# Altium schematic symbol library MCU_ST_STM32F2.SchLib: 62 symbols (part 1 of 3)
Pins are listed as number, name and electrical type; pins without a type are passive.

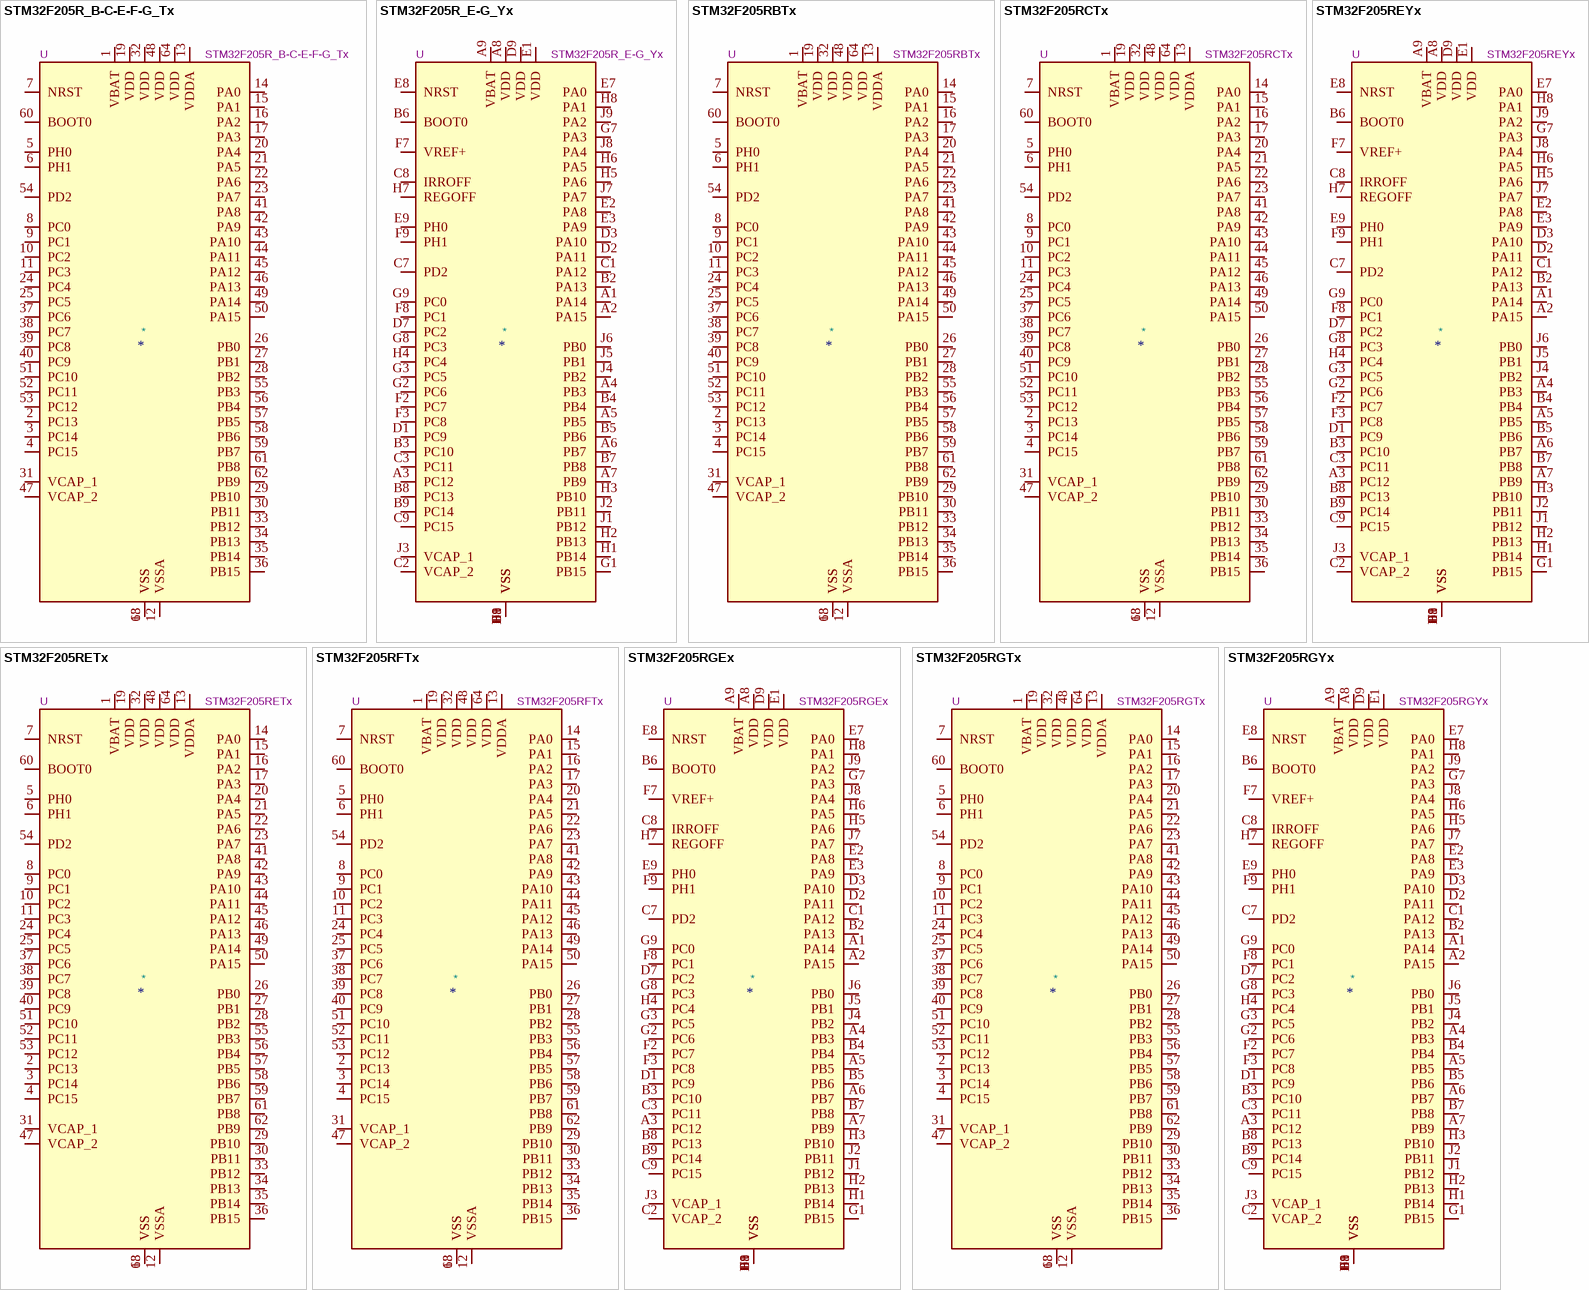
[diagram p0: symbols STM32F205R_B-C-E-F-G_Tx to STM32F205RGYx]

## STM32F205R_B-C-E-F-G_Tx
designator *  value STM32F205R_B-C-E-F-G_Tx  Reference: U
STMicroelectronics Arm Cortex-M3 MCU, 128-1024KB flash, 64-128KB RAM, 120 MHz, 1.8-3.6V, 51 GPIO, LQFP64; ki_keywords: Arm Cortex-M3 STM32F2 STM32F2x5; ki_fp_filters: LQFP*10x10mm*P0.5mm*; Footprint: Package_QFP:LQFP-64_10x10mm_P0.5mm; Datasheet: https://www.st.com/resource/en/datasheet/stm32f205rb.pdf; Description_: STMicroelectronics Arm Cortex-M3 MCU, 128-1024KB flash, 64-128KB RAM, 120 MHz, 1.8-3.6V, 51 GPIO, LQFP64
pins: 1 VBAT, 2 PC13, 3 PC14, 4 PC15, 5 PH0, 6 PH1, 7 NRST, 8 PC0, 9 PC1, 10 PC2, 11 PC3, 12 VSSA, 13 VDDA, 14 PA0, 15 PA1, 16 PA2, 17 PA3, 18 VSS, 19 VDD, 20 PA4, 21 PA5, 22 PA6, 23 PA7, 24 PC4, 25 PC5, 26 PB0, 27 PB1, 28 PB2, 29 PB10, 30 PB11, 31 VCAP_1, 32 VDD, 33 PB12, 34 PB13, 35 PB14, 36 PB15, 37 PC6, 38 PC7, 39 PC8, 40 PC9, 41 PA8, 42 PA9, 43 PA10, 44 PA11, 45 PA12, 46 PA13, 47 VCAP_2, 48 VDD, 49 PA14, 50 PA15, 51 PC10, 52 PC11, 53 PC12, 54 PD2, 55 PB3, 56 PB4, 57 PB5, 58 PB6, 59 PB7, 60 BOOT0, 61 PB8, 62 PB9, 63 VSS, 64 VDD

## STM32F205R_E-G_Yx
designator *  value STM32F205R_E-G_Yx  Reference: U
STMicroelectronics Arm Cortex-M3 MCU, 512-1024KB flash, 128KB RAM, 120 MHz, 1.8-3.6V, 51 GPIO, WLCSP66; ki_keywords: Arm Cortex-M3 STM32F2 STM32F2x5; ki_fp_filters: ST*WLCSP*Die411*; Footprint: Package_CSP:ST_WLCSP-66_Die411; Datasheet: https://www.st.com/resource/en/datasheet/stm32f205re.pdf; Description_: STMicroelectronics Arm Cortex-M3 MCU, 512-1024KB flash, 128KB RAM, 120 MHz, 1.8-3.6V, 51 GPIO, WLCSP66
pins: A1 PA14, A2 PA15, A3 PC12, A4 PB3, A5 PB5, A6 PB7, A7 PB9, A8 VDD, A9 VBAT, B1 VSS, B2 PA13, B3 PC10, B4 PB4, B5 PB6, B6 BOOT0, B7 PB8, B8 PC13, B9 PC14, C1 PA12, C2 VCAP_2, C3 PC11, C7 PD2, C8 IRROFF, C9 PC15, D1 PC9, D2 PA11, D3 PA10, D7 PC2, D8 VSS, D9 VDD, E1 VDD, E2 PA8, E3 PA9, E7 PA0, E8 NRST, E9 PH0, F1 VSS, F2 PC7, F3 PC8, F7 VREF+, F8 PC1, F9 PH1, G1 PB15, G2 PC6, G3 PC5, G7 PA3, G8 PC3, G9 PC0, H1 PB14, H2 PB13, H3 PB10, H4 PC4, H5 PA6, H6 PA5, H7 REGOFF, H8 PA1, H9 VSS, J1 PB12, J2 PB11, J3 VCAP_1, J4 PB2, J5 PB1, J6 PB0, J7 PA7, J8 PA4, J9 PA2

## STM32F205RBTx
designator *  value STM32F205RBTx  Reference: U
STMicroelectronics Arm Cortex-M3 MCU, 128KB flash, 64KB RAM, 120 MHz, 1.8-3.6V, 51 GPIO, LQFP64; ki_keywords: Arm Cortex-M3 STM32F2 STM32F2x5; ki_fp_filters: LQFP*10x10mm*P0.5mm*; Footprint: Package_QFP:LQFP-64_10x10mm_P0.5mm; Datasheet: https://www.st.com/resource/en/datasheet/stm32f205rb.pdf; Description_: STMicroelectronics Arm Cortex-M3 MCU, 128KB flash, 64KB RAM, 120 MHz, 1.8-3.6V, 51 GPIO, LQFP64
pins: 1 VBAT, 2 PC13, 3 PC14, 4 PC15, 5 PH0, 6 PH1, 7 NRST, 8 PC0, 9 PC1, 10 PC2, 11 PC3, 12 VSSA, 13 VDDA, 14 PA0, 15 PA1, 16 PA2, 17 PA3, 18 VSS, 19 VDD, 20 PA4, 21 PA5, 22 PA6, 23 PA7, 24 PC4, 25 PC5, 26 PB0, 27 PB1, 28 PB2, 29 PB10, 30 PB11, 31 VCAP_1, 32 VDD, 33 PB12, 34 PB13, 35 PB14, 36 PB15, 37 PC6, 38 PC7, 39 PC8, 40 PC9, 41 PA8, 42 PA9, 43 PA10, 44 PA11, 45 PA12, 46 PA13, 47 VCAP_2, 48 VDD, 49 PA14, 50 PA15, 51 PC10, 52 PC11, 53 PC12, 54 PD2, 55 PB3, 56 PB4, 57 PB5, 58 PB6, 59 PB7, 60 BOOT0, 61 PB8, 62 PB9, 63 VSS, 64 VDD

## STM32F205RCTx
designator *  value STM32F205RCTx  Reference: U
STMicroelectronics Arm Cortex-M3 MCU, 256KB flash, 96KB RAM, 120 MHz, 1.8-3.6V, 51 GPIO, LQFP64; ki_keywords: Arm Cortex-M3 STM32F2 STM32F2x5; ki_fp_filters: LQFP*10x10mm*P0.5mm*; Footprint: Package_QFP:LQFP-64_10x10mm_P0.5mm; Datasheet: https://www.st.com/resource/en/datasheet/stm32f205rc.pdf; Description_: STMicroelectronics Arm Cortex-M3 MCU, 256KB flash, 96KB RAM, 120 MHz, 1.8-3.6V, 51 GPIO, LQFP64
pins: 1 VBAT, 2 PC13, 3 PC14, 4 PC15, 5 PH0, 6 PH1, 7 NRST, 8 PC0, 9 PC1, 10 PC2, 11 PC3, 12 VSSA, 13 VDDA, 14 PA0, 15 PA1, 16 PA2, 17 PA3, 18 VSS, 19 VDD, 20 PA4, 21 PA5, 22 PA6, 23 PA7, 24 PC4, 25 PC5, 26 PB0, 27 PB1, 28 PB2, 29 PB10, 30 PB11, 31 VCAP_1, 32 VDD, 33 PB12, 34 PB13, 35 PB14, 36 PB15, 37 PC6, 38 PC7, 39 PC8, 40 PC9, 41 PA8, 42 PA9, 43 PA10, 44 PA11, 45 PA12, 46 PA13, 47 VCAP_2, 48 VDD, 49 PA14, 50 PA15, 51 PC10, 52 PC11, 53 PC12, 54 PD2, 55 PB3, 56 PB4, 57 PB5, 58 PB6, 59 PB7, 60 BOOT0, 61 PB8, 62 PB9, 63 VSS, 64 VDD

## STM32F205RETx
designator *  value STM32F205RETx  Reference: U
STMicroelectronics Arm Cortex-M3 MCU, 512KB flash, 128KB RAM, 120 MHz, 1.8-3.6V, 51 GPIO, LQFP64; ki_keywords: Arm Cortex-M3 STM32F2 STM32F2x5; ki_fp_filters: LQFP*10x10mm*P0.5mm*; Footprint: Package_QFP:LQFP-64_10x10mm_P0.5mm; Datasheet: https://www.st.com/resource/en/datasheet/stm32f205re.pdf; Description_: STMicroelectronics Arm Cortex-M3 MCU, 512KB flash, 128KB RAM, 120 MHz, 1.8-3.6V, 51 GPIO, LQFP64
pins: 1 VBAT, 2 PC13, 3 PC14, 4 PC15, 5 PH0, 6 PH1, 7 NRST, 8 PC0, 9 PC1, 10 PC2, 11 PC3, 12 VSSA, 13 VDDA, 14 PA0, 15 PA1, 16 PA2, 17 PA3, 18 VSS, 19 VDD, 20 PA4, 21 PA5, 22 PA6, 23 PA7, 24 PC4, 25 PC5, 26 PB0, 27 PB1, 28 PB2, 29 PB10, 30 PB11, 31 VCAP_1, 32 VDD, 33 PB12, 34 PB13, 35 PB14, 36 PB15, 37 PC6, 38 PC7, 39 PC8, 40 PC9, 41 PA8, 42 PA9, 43 PA10, 44 PA11, 45 PA12, 46 PA13, 47 VCAP_2, 48 VDD, 49 PA14, 50 PA15, 51 PC10, 52 PC11, 53 PC12, 54 PD2, 55 PB3, 56 PB4, 57 PB5, 58 PB6, 59 PB7, 60 BOOT0, 61 PB8, 62 PB9, 63 VSS, 64 VDD

## STM32F205REYx
designator *  value STM32F205REYx  Reference: U
STMicroelectronics Arm Cortex-M3 MCU, 512KB flash, 128KB RAM, 120 MHz, 1.8-3.6V, 51 GPIO, WLCSP66; ki_keywords: Arm Cortex-M3 STM32F2 STM32F2x5; ki_fp_filters: ST*WLCSP*Die411*; Footprint: Package_CSP:ST_WLCSP-66_Die411; Datasheet: https://www.st.com/resource/en/datasheet/stm32f205re.pdf; Description_: STMicroelectronics Arm Cortex-M3 MCU, 512KB flash, 128KB RAM, 120 MHz, 1.8-3.6V, 51 GPIO, WLCSP66
pins: A1 PA14, A2 PA15, A3 PC12, A4 PB3, A5 PB5, A6 PB7, A7 PB9, A8 VDD, A9 VBAT, B1 VSS, B2 PA13, B3 PC10, B4 PB4, B5 PB6, B6 BOOT0, B7 PB8, B8 PC13, B9 PC14, C1 PA12, C2 VCAP_2, C3 PC11, C7 PD2, C8 IRROFF, C9 PC15, D1 PC9, D2 PA11, D3 PA10, D7 PC2, D8 VSS, D9 VDD, E1 VDD, E2 PA8, E3 PA9, E7 PA0, E8 NRST, E9 PH0, F1 VSS, F2 PC7, F3 PC8, F7 VREF+, F8 PC1, F9 PH1, G1 PB15, G2 PC6, G3 PC5, G7 PA3, G8 PC3, G9 PC0, H1 PB14, H2 PB13, H3 PB10, H4 PC4, H5 PA6, H6 PA5, H7 REGOFF, H8 PA1, H9 VSS, J1 PB12, J2 PB11, J3 VCAP_1, J4 PB2, J5 PB1, J6 PB0, J7 PA7, J8 PA4, J9 PA2

## STM32F205RFTx
designator *  value STM32F205RFTx  Reference: U
STMicroelectronics Arm Cortex-M3 MCU, 768KB flash, 128KB RAM, 120 MHz, 1.8-3.6V, 51 GPIO, LQFP64; ki_keywords: Arm Cortex-M3 STM32F2 STM32F2x5; ki_fp_filters: LQFP*10x10mm*P0.5mm*; Footprint: Package_QFP:LQFP-64_10x10mm_P0.5mm; Datasheet: https://www.st.com/resource/en/datasheet/stm32f205rf.pdf; Description_: STMicroelectronics Arm Cortex-M3 MCU, 768KB flash, 128KB RAM, 120 MHz, 1.8-3.6V, 51 GPIO, LQFP64
pins: 1 VBAT, 2 PC13, 3 PC14, 4 PC15, 5 PH0, 6 PH1, 7 NRST, 8 PC0, 9 PC1, 10 PC2, 11 PC3, 12 VSSA, 13 VDDA, 14 PA0, 15 PA1, 16 PA2, 17 PA3, 18 VSS, 19 VDD, 20 PA4, 21 PA5, 22 PA6, 23 PA7, 24 PC4, 25 PC5, 26 PB0, 27 PB1, 28 PB2, 29 PB10, 30 PB11, 31 VCAP_1, 32 VDD, 33 PB12, 34 PB13, 35 PB14, 36 PB15, 37 PC6, 38 PC7, 39 PC8, 40 PC9, 41 PA8, 42 PA9, 43 PA10, 44 PA11, 45 PA12, 46 PA13, 47 VCAP_2, 48 VDD, 49 PA14, 50 PA15, 51 PC10, 52 PC11, 53 PC12, 54 PD2, 55 PB3, 56 PB4, 57 PB5, 58 PB6, 59 PB7, 60 BOOT0, 61 PB8, 62 PB9, 63 VSS, 64 VDD

## STM32F205RGEx
designator *  value STM32F205RGEx  Reference: U
STMicroelectronics Arm Cortex-M3 MCU, 1024KB flash, 128KB RAM, 120 MHz, 1.8-3.6V, 51 GPIO, EWLCSP66; ki_keywords: Arm Cortex-M3 STM32F2 STM32F2x5; ki_fp_filters: ST*WLCSP*Die411*; Footprint: Package_CSP:ST_WLCSP-66_Die411; Datasheet: https://www.st.com/resource/en/datasheet/stm32f205rg.pdf; Description_: STMicroelectronics Arm Cortex-M3 MCU, 1024KB flash, 128KB RAM, 120 MHz, 1.8-3.6V, 51 GPIO, EWLCSP66
pins: A1 PA14, A2 PA15, A3 PC12, A4 PB3, A5 PB5, A6 PB7, A7 PB9, A8 VDD, A9 VBAT, B1 VSS, B2 PA13, B3 PC10, B4 PB4, B5 PB6, B6 BOOT0, B7 PB8, B8 PC13, B9 PC14, C1 PA12, C2 VCAP_2, C3 PC11, C7 PD2, C8 IRROFF, C9 PC15, D1 PC9, D2 PA11, D3 PA10, D7 PC2, D8 VSS, D9 VDD, E1 VDD, E2 PA8, E3 PA9, E7 PA0, E8 NRST, E9 PH0, F1 VSS, F2 PC7, F3 PC8, F7 VREF+, F8 PC1, F9 PH1, G1 PB15, G2 PC6, G3 PC5, G7 PA3, G8 PC3, G9 PC0, H1 PB14, H2 PB13, H3 PB10, H4 PC4, H5 PA6, H6 PA5, H7 REGOFF, H8 PA1, H9 VSS, J1 PB12, J2 PB11, J3 VCAP_1, J4 PB2, J5 PB1, J6 PB0, J7 PA7, J8 PA4, J9 PA2

## STM32F205RGTx
designator *  value STM32F205RGTx  Reference: U
STMicroelectronics Arm Cortex-M3 MCU, 1024KB flash, 128KB RAM, 120 MHz, 1.8-3.6V, 51 GPIO, LQFP64; ki_keywords: Arm Cortex-M3 STM32F2 STM32F2x5; ki_fp_filters: LQFP*10x10mm*P0.5mm*; Footprint: Package_QFP:LQFP-64_10x10mm_P0.5mm; Datasheet: https://www.st.com/resource/en/datasheet/stm32f205rg.pdf; Description_: STMicroelectronics Arm Cortex-M3 MCU, 1024KB flash, 128KB RAM, 120 MHz, 1.8-3.6V, 51 GPIO, LQFP64
pins: 1 VBAT, 2 PC13, 3 PC14, 4 PC15, 5 PH0, 6 PH1, 7 NRST, 8 PC0, 9 PC1, 10 PC2, 11 PC3, 12 VSSA, 13 VDDA, 14 PA0, 15 PA1, 16 PA2, 17 PA3, 18 VSS, 19 VDD, 20 PA4, 21 PA5, 22 PA6, 23 PA7, 24 PC4, 25 PC5, 26 PB0, 27 PB1, 28 PB2, 29 PB10, 30 PB11, 31 VCAP_1, 32 VDD, 33 PB12, 34 PB13, 35 PB14, 36 PB15, 37 PC6, 38 PC7, 39 PC8, 40 PC9, 41 PA8, 42 PA9, 43 PA10, 44 PA11, 45 PA12, 46 PA13, 47 VCAP_2, 48 VDD, 49 PA14, 50 PA15, 51 PC10, 52 PC11, 53 PC12, 54 PD2, 55 PB3, 56 PB4, 57 PB5, 58 PB6, 59 PB7, 60 BOOT0, 61 PB8, 62 PB9, 63 VSS, 64 VDD

## STM32F205RGYx
designator *  value STM32F205RGYx  Reference: U
STMicroelectronics Arm Cortex-M3 MCU, 1024KB flash, 128KB RAM, 120 MHz, 1.8-3.6V, 51 GPIO, WLCSP66; ki_keywords: Arm Cortex-M3 STM32F2 STM32F2x5; ki_fp_filters: ST*WLCSP*Die411*; Footprint: Package_CSP:ST_WLCSP-66_Die411; Datasheet: https://www.st.com/resource/en/datasheet/stm32f205rg.pdf; Description_: STMicroelectronics Arm Cortex-M3 MCU, 1024KB flash, 128KB RAM, 120 MHz, 1.8-3.6V, 51 GPIO, WLCSP66
pins: A1 PA14, A2 PA15, A3 PC12, A4 PB3, A5 PB5, A6 PB7, A7 PB9, A8 VDD, A9 VBAT, B1 VSS, B2 PA13, B3 PC10, B4 PB4, B5 PB6, B6 BOOT0, B7 PB8, B8 PC13, B9 PC14, C1 PA12, C2 VCAP_2, C3 PC11, C7 PD2, C8 IRROFF, C9 PC15, D1 PC9, D2 PA11, D3 PA10, D7 PC2, D8 VSS, D9 VDD, E1 VDD, E2 PA8, E3 PA9, E7 PA0, E8 NRST, E9 PH0, F1 VSS, F2 PC7, F3 PC8, F7 VREF+, F8 PC1, F9 PH1, G1 PB15, G2 PC6, G3 PC5, G7 PA3, G8 PC3, G9 PC0, H1 PB14, H2 PB13, H3 PB10, H4 PC4, H5 PA6, H6 PA5, H7 REGOFF, H8 PA1, H9 VSS, J1 PB12, J2 PB11, J3 VCAP_1, J4 PB2, J5 PB1, J6 PB0, J7 PA7, J8 PA4, J9 PA2

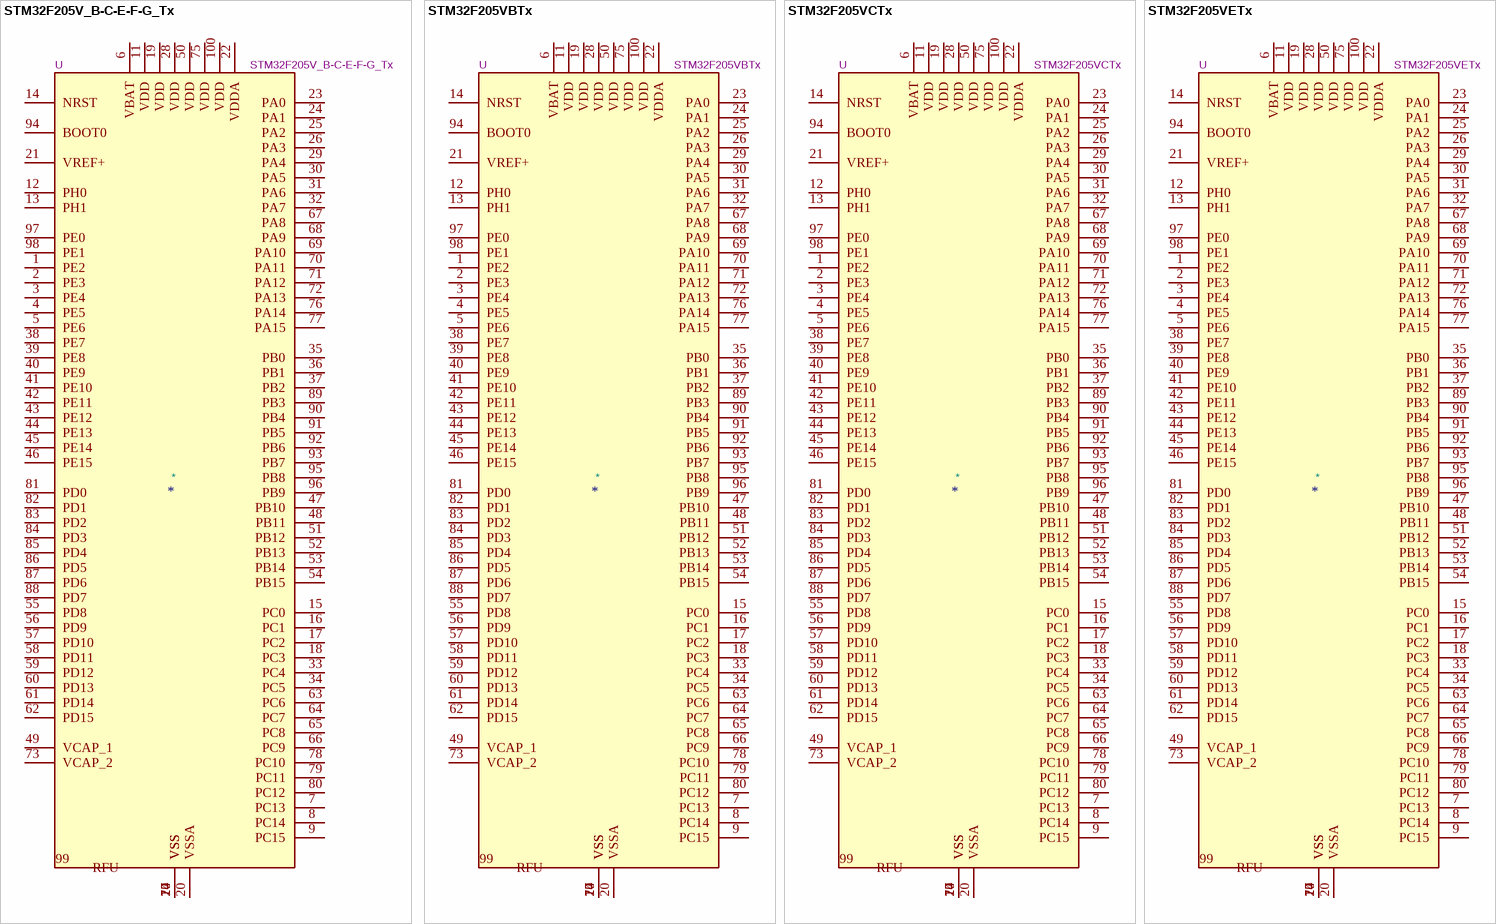
[diagram p1: symbols STM32F205V_B-C-E-F-G_Tx to STM32F205VETx]

## STM32F205V_B-C-E-F-G_Tx
designator *  value STM32F205V_B-C-E-F-G_Tx  Reference: U
STMicroelectronics Arm Cortex-M3 MCU, 128-1024KB flash, 64-128KB RAM, 120 MHz, 1.8-3.6V, 82 GPIO, LQFP100; ki_keywords: Arm Cortex-M3 STM32F2 STM32F2x5; ki_fp_filters: LQFP*14x14mm*P0.5mm*; Footprint: Package_QFP:LQFP-100_14x14mm_P0.5mm; Datasheet: https://www.st.com/resource/en/datasheet/stm32f205vb.pdf; Description_: STMicroelectronics Arm Cortex-M3 MCU, 128-1024KB flash, 64-128KB RAM, 120 MHz, 1.8-3.6V, 82 GPIO, LQFP100
pins: 1 PE2, 2 PE3, 3 PE4, 4 PE5, 5 PE6, 6 VBAT, 7 PC13, 8 PC14, 9 PC15, 10 VSS, 11 VDD, 12 PH0, 13 PH1, 14 NRST, 15 PC0, 16 PC1, 17 PC2, 18 PC3, 19 VDD, 20 VSSA, 21 VREF+, 22 VDDA, 23 PA0, 24 PA1, 25 PA2, 26 PA3, 27 VSS, 28 VDD, 29 PA4, 30 PA5, 31 PA6, 32 PA7, 33 PC4, 34 PC5, 35 PB0, 36 PB1, 37 PB2, 38 PE7, 39 PE8, 40 PE9, 41 PE10, 42 PE11, 43 PE12, 44 PE13, 45 PE14, 46 PE15, 47 PB10, 48 PB11, 49 VCAP_1, 50 VDD, 51 PB12, 52 PB13, 53 PB14, 54 PB15, 55 PD8, 56 PD9, 57 PD10, 58 PD11, 59 PD12, 60 PD13, 61 PD14, 62 PD15, 63 PC6, 64 PC7, 65 PC8, 66 PC9, 67 PA8, 68 PA9, 69 PA10, 70 PA11, 71 PA12, 72 PA13, 73 VCAP_2, 74 VSS, 75 VDD, 76 PA14, 77 PA15, 78 PC10, 79 PC11, 80 PC12, 81 PD0, 82 PD1, 83 PD2, 84 PD3, 85 PD4, 86 PD5, 87 PD6, 88 PD7, 89 PB3, 90 PB4, 91 PB5, 92 PB6, 93 PB7, 94 BOOT0, 95 PB8, 96 PB9, 97 PE0, 98 PE1, 99 RFU, 100 VDD

## STM32F205VBTx
designator *  value STM32F205VBTx  Reference: U
STMicroelectronics Arm Cortex-M3 MCU, 128KB flash, 64KB RAM, 120 MHz, 1.8-3.6V, 82 GPIO, LQFP100; ki_keywords: Arm Cortex-M3 STM32F2 STM32F2x5; ki_fp_filters: LQFP*14x14mm*P0.5mm*; Footprint: Package_QFP:LQFP-100_14x14mm_P0.5mm; Datasheet: https://www.st.com/resource/en/datasheet/stm32f205vb.pdf; Description_: STMicroelectronics Arm Cortex-M3 MCU, 128KB flash, 64KB RAM, 120 MHz, 1.8-3.6V, 82 GPIO, LQFP100
pins: 1 PE2, 2 PE3, 3 PE4, 4 PE5, 5 PE6, 6 VBAT, 7 PC13, 8 PC14, 9 PC15, 10 VSS, 11 VDD, 12 PH0, 13 PH1, 14 NRST, 15 PC0, 16 PC1, 17 PC2, 18 PC3, 19 VDD, 20 VSSA, 21 VREF+, 22 VDDA, 23 PA0, 24 PA1, 25 PA2, 26 PA3, 27 VSS, 28 VDD, 29 PA4, 30 PA5, 31 PA6, 32 PA7, 33 PC4, 34 PC5, 35 PB0, 36 PB1, 37 PB2, 38 PE7, 39 PE8, 40 PE9, 41 PE10, 42 PE11, 43 PE12, 44 PE13, 45 PE14, 46 PE15, 47 PB10, 48 PB11, 49 VCAP_1, 50 VDD, 51 PB12, 52 PB13, 53 PB14, 54 PB15, 55 PD8, 56 PD9, 57 PD10, 58 PD11, 59 PD12, 60 PD13, 61 PD14, 62 PD15, 63 PC6, 64 PC7, 65 PC8, 66 PC9, 67 PA8, 68 PA9, 69 PA10, 70 PA11, 71 PA12, 72 PA13, 73 VCAP_2, 74 VSS, 75 VDD, 76 PA14, 77 PA15, 78 PC10, 79 PC11, 80 PC12, 81 PD0, 82 PD1, 83 PD2, 84 PD3, 85 PD4, 86 PD5, 87 PD6, 88 PD7, 89 PB3, 90 PB4, 91 PB5, 92 PB6, 93 PB7, 94 BOOT0, 95 PB8, 96 PB9, 97 PE0, 98 PE1, 99 RFU, 100 VDD

## STM32F205VCTx
designator *  value STM32F205VCTx  Reference: U
STMicroelectronics Arm Cortex-M3 MCU, 256KB flash, 96KB RAM, 120 MHz, 1.8-3.6V, 82 GPIO, LQFP100; ki_keywords: Arm Cortex-M3 STM32F2 STM32F2x5; ki_fp_filters: LQFP*14x14mm*P0.5mm*; Footprint: Package_QFP:LQFP-100_14x14mm_P0.5mm; Datasheet: https://www.st.com/resource/en/datasheet/stm32f205vc.pdf; Description_: STMicroelectronics Arm Cortex-M3 MCU, 256KB flash, 96KB RAM, 120 MHz, 1.8-3.6V, 82 GPIO, LQFP100
pins: 1 PE2, 2 PE3, 3 PE4, 4 PE5, 5 PE6, 6 VBAT, 7 PC13, 8 PC14, 9 PC15, 10 VSS, 11 VDD, 12 PH0, 13 PH1, 14 NRST, 15 PC0, 16 PC1, 17 PC2, 18 PC3, 19 VDD, 20 VSSA, 21 VREF+, 22 VDDA, 23 PA0, 24 PA1, 25 PA2, 26 PA3, 27 VSS, 28 VDD, 29 PA4, 30 PA5, 31 PA6, 32 PA7, 33 PC4, 34 PC5, 35 PB0, 36 PB1, 37 PB2, 38 PE7, 39 PE8, 40 PE9, 41 PE10, 42 PE11, 43 PE12, 44 PE13, 45 PE14, 46 PE15, 47 PB10, 48 PB11, 49 VCAP_1, 50 VDD, 51 PB12, 52 PB13, 53 PB14, 54 PB15, 55 PD8, 56 PD9, 57 PD10, 58 PD11, 59 PD12, 60 PD13, 61 PD14, 62 PD15, 63 PC6, 64 PC7, 65 PC8, 66 PC9, 67 PA8, 68 PA9, 69 PA10, 70 PA11, 71 PA12, 72 PA13, 73 VCAP_2, 74 VSS, 75 VDD, 76 PA14, 77 PA15, 78 PC10, 79 PC11, 80 PC12, 81 PD0, 82 PD1, 83 PD2, 84 PD3, 85 PD4, 86 PD5, 87 PD6, 88 PD7, 89 PB3, 90 PB4, 91 PB5, 92 PB6, 93 PB7, 94 BOOT0, 95 PB8, 96 PB9, 97 PE0, 98 PE1, 99 RFU, 100 VDD

## STM32F205VETx
designator *  value STM32F205VETx  Reference: U
STMicroelectronics Arm Cortex-M3 MCU, 512KB flash, 128KB RAM, 120 MHz, 1.8-3.6V, 82 GPIO, LQFP100; ki_keywords: Arm Cortex-M3 STM32F2 STM32F2x5; ki_fp_filters: LQFP*14x14mm*P0.5mm*; Footprint: Package_QFP:LQFP-100_14x14mm_P0.5mm; Datasheet: https://www.st.com/resource/en/datasheet/stm32f205ve.pdf; Description_: STMicroelectronics Arm Cortex-M3 MCU, 512KB flash, 128KB RAM, 120 MHz, 1.8-3.6V, 82 GPIO, LQFP100
pins: 1 PE2, 2 PE3, 3 PE4, 4 PE5, 5 PE6, 6 VBAT, 7 PC13, 8 PC14, 9 PC15, 10 VSS, 11 VDD, 12 PH0, 13 PH1, 14 NRST, 15 PC0, 16 PC1, 17 PC2, 18 PC3, 19 VDD, 20 VSSA, 21 VREF+, 22 VDDA, 23 PA0, 24 PA1, 25 PA2, 26 PA3, 27 VSS, 28 VDD, 29 PA4, 30 PA5, 31 PA6, 32 PA7, 33 PC4, 34 PC5, 35 PB0, 36 PB1, 37 PB2, 38 PE7, 39 PE8, 40 PE9, 41 PE10, 42 PE11, 43 PE12, 44 PE13, 45 PE14, 46 PE15, 47 PB10, 48 PB11, 49 VCAP_1, 50 VDD, 51 PB12, 52 PB13, 53 PB14, 54 PB15, 55 PD8, 56 PD9, 57 PD10, 58 PD11, 59 PD12, 60 PD13, 61 PD14, 62 PD15, 63 PC6, 64 PC7, 65 PC8, 66 PC9, 67 PA8, 68 PA9, 69 PA10, 70 PA11, 71 PA12, 72 PA13, 73 VCAP_2, 74 VSS, 75 VDD, 76 PA14, 77 PA15, 78 PC10, 79 PC11, 80 PC12, 81 PD0, 82 PD1, 83 PD2, 84 PD3, 85 PD4, 86 PD5, 87 PD6, 88 PD7, 89 PB3, 90 PB4, 91 PB5, 92 PB6, 93 PB7, 94 BOOT0, 95 PB8, 96 PB9, 97 PE0, 98 PE1, 99 RFU, 100 VDD

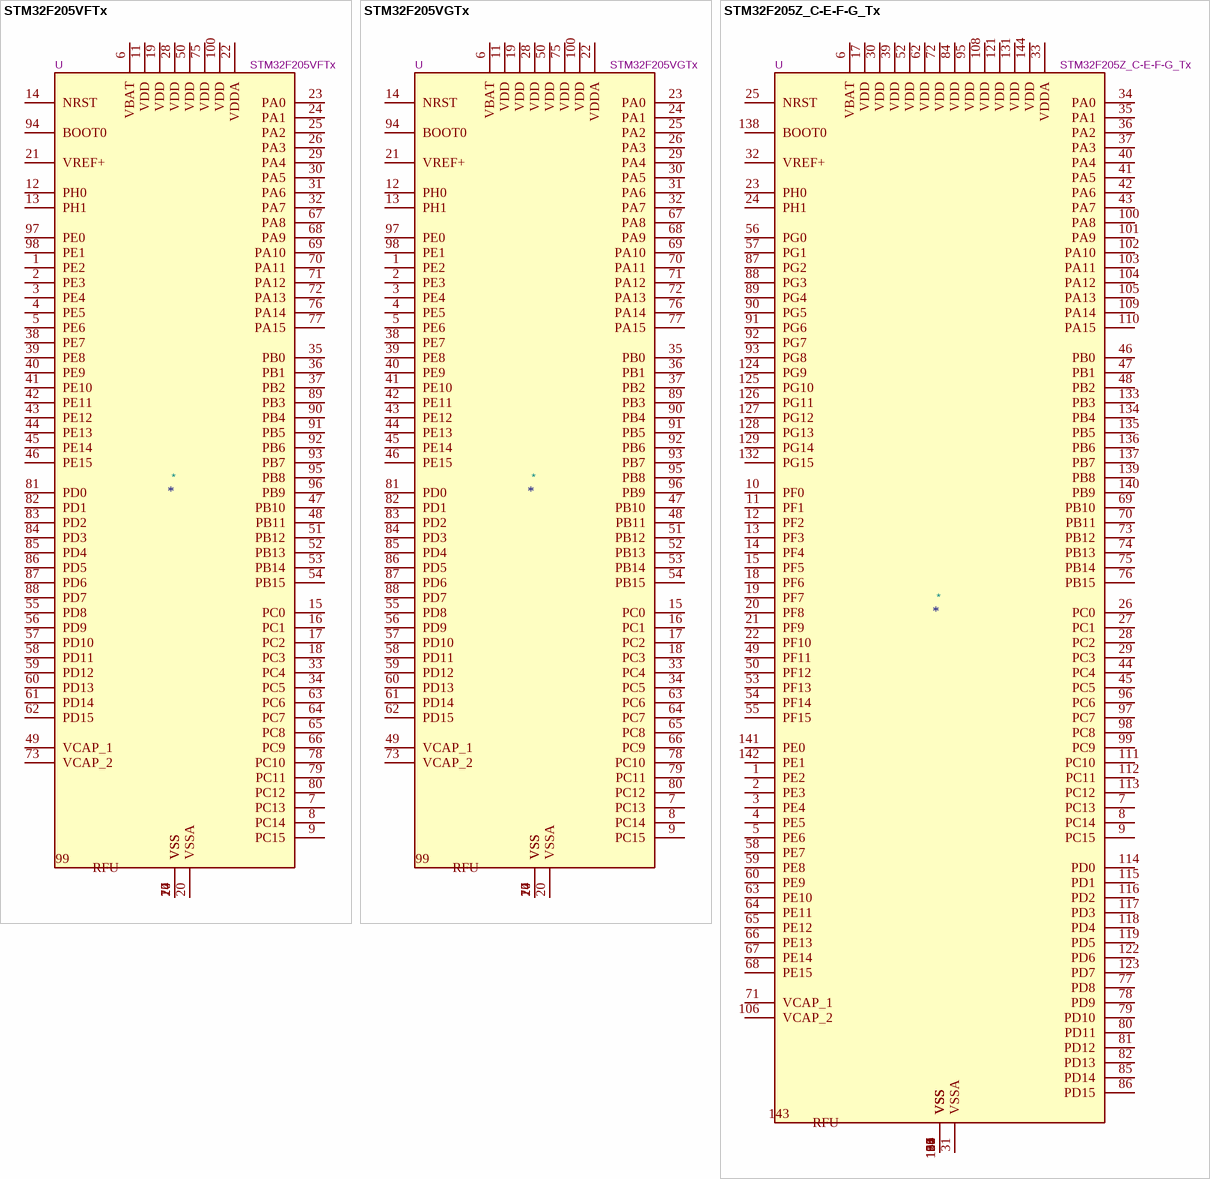
[diagram p2: symbols STM32F205VFTx to STM32F205Z_C-E-F-G_Tx]

## STM32F205VFTx
designator *  value STM32F205VFTx  Reference: U
STMicroelectronics Arm Cortex-M3 MCU, 768KB flash, 128KB RAM, 120 MHz, 1.8-3.6V, 82 GPIO, LQFP100; ki_keywords: Arm Cortex-M3 STM32F2 STM32F2x5; ki_fp_filters: LQFP*14x14mm*P0.5mm*; Footprint: Package_QFP:LQFP-100_14x14mm_P0.5mm; Datasheet: https://www.st.com/resource/en/datasheet/stm32f205vf.pdf; Description_: STMicroelectronics Arm Cortex-M3 MCU, 768KB flash, 128KB RAM, 120 MHz, 1.8-3.6V, 82 GPIO, LQFP100
pins: 1 PE2, 2 PE3, 3 PE4, 4 PE5, 5 PE6, 6 VBAT, 7 PC13, 8 PC14, 9 PC15, 10 VSS, 11 VDD, 12 PH0, 13 PH1, 14 NRST, 15 PC0, 16 PC1, 17 PC2, 18 PC3, 19 VDD, 20 VSSA, 21 VREF+, 22 VDDA, 23 PA0, 24 PA1, 25 PA2, 26 PA3, 27 VSS, 28 VDD, 29 PA4, 30 PA5, 31 PA6, 32 PA7, 33 PC4, 34 PC5, 35 PB0, 36 PB1, 37 PB2, 38 PE7, 39 PE8, 40 PE9, 41 PE10, 42 PE11, 43 PE12, 44 PE13, 45 PE14, 46 PE15, 47 PB10, 48 PB11, 49 VCAP_1, 50 VDD, 51 PB12, 52 PB13, 53 PB14, 54 PB15, 55 PD8, 56 PD9, 57 PD10, 58 PD11, 59 PD12, 60 PD13, 61 PD14, 62 PD15, 63 PC6, 64 PC7, 65 PC8, 66 PC9, 67 PA8, 68 PA9, 69 PA10, 70 PA11, 71 PA12, 72 PA13, 73 VCAP_2, 74 VSS, 75 VDD, 76 PA14, 77 PA15, 78 PC10, 79 PC11, 80 PC12, 81 PD0, 82 PD1, 83 PD2, 84 PD3, 85 PD4, 86 PD5, 87 PD6, 88 PD7, 89 PB3, 90 PB4, 91 PB5, 92 PB6, 93 PB7, 94 BOOT0, 95 PB8, 96 PB9, 97 PE0, 98 PE1, 99 RFU, 100 VDD

## STM32F205VGTx
designator *  value STM32F205VGTx  Reference: U
STMicroelectronics Arm Cortex-M3 MCU, 1024KB flash, 128KB RAM, 120 MHz, 1.8-3.6V, 82 GPIO, LQFP100; ki_keywords: Arm Cortex-M3 STM32F2 STM32F2x5; ki_fp_filters: LQFP*14x14mm*P0.5mm*; Footprint: Package_QFP:LQFP-100_14x14mm_P0.5mm; Datasheet: https://www.st.com/resource/en/datasheet/stm32f205vg.pdf; Description_: STMicroelectronics Arm Cortex-M3 MCU, 1024KB flash, 128KB RAM, 120 MHz, 1.8-3.6V, 82 GPIO, LQFP100
pins: 1 PE2, 2 PE3, 3 PE4, 4 PE5, 5 PE6, 6 VBAT, 7 PC13, 8 PC14, 9 PC15, 10 VSS, 11 VDD, 12 PH0, 13 PH1, 14 NRST, 15 PC0, 16 PC1, 17 PC2, 18 PC3, 19 VDD, 20 VSSA, 21 VREF+, 22 VDDA, 23 PA0, 24 PA1, 25 PA2, 26 PA3, 27 VSS, 28 VDD, 29 PA4, 30 PA5, 31 PA6, 32 PA7, 33 PC4, 34 PC5, 35 PB0, 36 PB1, 37 PB2, 38 PE7, 39 PE8, 40 PE9, 41 PE10, 42 PE11, 43 PE12, 44 PE13, 45 PE14, 46 PE15, 47 PB10, 48 PB11, 49 VCAP_1, 50 VDD, 51 PB12, 52 PB13, 53 PB14, 54 PB15, 55 PD8, 56 PD9, 57 PD10, 58 PD11, 59 PD12, 60 PD13, 61 PD14, 62 PD15, 63 PC6, 64 PC7, 65 PC8, 66 PC9, 67 PA8, 68 PA9, 69 PA10, 70 PA11, 71 PA12, 72 PA13, 73 VCAP_2, 74 VSS, 75 VDD, 76 PA14, 77 PA15, 78 PC10, 79 PC11, 80 PC12, 81 PD0, 82 PD1, 83 PD2, 84 PD3, 85 PD4, 86 PD5, 87 PD6, 88 PD7, 89 PB3, 90 PB4, 91 PB5, 92 PB6, 93 PB7, 94 BOOT0, 95 PB8, 96 PB9, 97 PE0, 98 PE1, 99 RFU, 100 VDD

## STM32F205Z_C-E-F-G_Tx
designator *  value STM32F205Z_C-E-F-G_Tx  Reference: U
STMicroelectronics Arm Cortex-M3 MCU, 256-1024KB flash, 96-128KB RAM, 120 MHz, 1.8-3.6V, 114 GPIO, LQFP144; ki_keywords: Arm Cortex-M3 STM32F2 STM32F2x5; ki_fp_filters: LQFP*20x20mm*P0.5mm*; Footprint: Package_QFP:LQFP-144_20x20mm_P0.5mm; Datasheet: https://www.st.com/resource/en/datasheet/stm32f205zc.pdf; Description_: STMicroelectronics Arm Cortex-M3 MCU, 256-1024KB flash, 96-128KB RAM, 120 MHz, 1.8-3.6V, 114 GPIO, LQFP144
pins: 1 PE2, 2 PE3, 3 PE4, 4 PE5, 5 PE6, 6 VBAT, 7 PC13, 8 PC14, 9 PC15, 10 PF0, 11 PF1, 12 PF2, 13 PF3, 14 PF4, 15 PF5, 16 VSS, 17 VDD, 18 PF6, 19 PF7, 20 PF8, 21 PF9, 22 PF10, 23 PH0, 24 PH1, 25 NRST, 26 PC0, 27 PC1, 28 PC2, 29 PC3, 30 VDD, 31 VSSA, 32 VREF+, 33 VDDA, 34 PA0, 35 PA1, 36 PA2, 37 PA3, 38 VSS, 39 VDD, 40 PA4, 41 PA5, 42 PA6, 43 PA7, 44 PC4, 45 PC5, 46 PB0, 47 PB1, 48 PB2, 49 PF11, 50 PF12, 51 VSS, 52 VDD, 53 PF13, 54 PF14, 55 PF15, 56 PG0, 57 PG1, 58 PE7, 59 PE8, 60 PE9, 61 VSS, 62 VDD, 63 PE10, 64 PE11, 65 PE12, 66 PE13, 67 PE14, 68 PE15, 69 PB10, 70 PB11, 71 VCAP_1, 72 VDD, 73 PB12, 74 PB13, 75 PB14, 76 PB15, 77 PD8, 78 PD9, 79 PD10, 80 PD11, 81 PD12, 82 PD13, 83 VSS, 84 VDD, 85 PD14, 86 PD15, 87 PG2, 88 PG3, 89 PG4, 90 PG5, 91 PG6, 92 PG7, 93 PG8, 94 VSS, 95 VDD, 96 PC6, 97 PC7, 98 PC8, 99 PC9, 100 PA8, 101 PA9, 102 PA10, 103 PA11, 104 PA12, 105 PA13, 106 VCAP_2, 107 VSS, 108 VDD, 109 PA14, 110 PA15, 111 PC10, 112 PC11, 113 PC12, 114 PD0, 115 PD1, 116 PD2, 117 PD3, 118 PD4, 119 PD5, 120 VSS, 121 VDD, 122 PD6, 123 PD7, 124 PG9, 125 PG10, 126 PG11, 127 PG12, 128 PG13, 129 PG14, 130 VSS, 131 VDD, 132 PG15, 133 PB3, 134 PB4, 135 PB5, 136 PB6, 137 PB7, 138 BOOT0, 139 PB8, 140 PB9, 141 PE0, 142 PE1, 143 RFU, 144 VDD

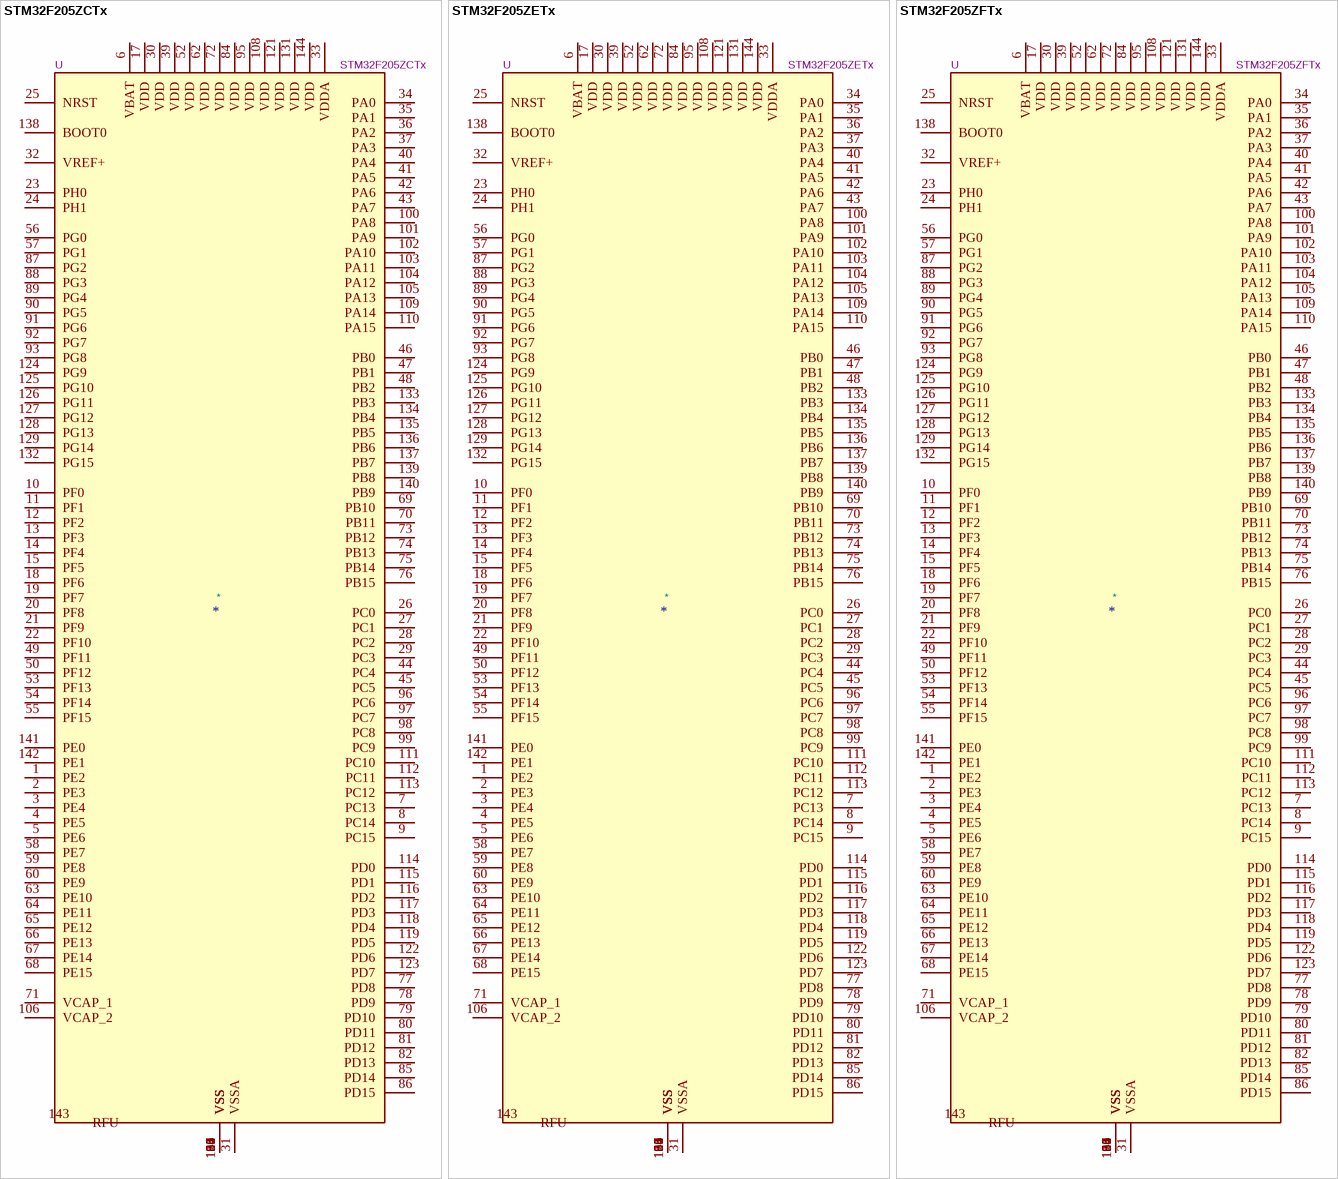
[diagram p3: symbols STM32F205ZCTx to STM32F205ZFTx]

## STM32F205ZCTx
designator *  value STM32F205ZCTx  Reference: U
STMicroelectronics Arm Cortex-M3 MCU, 256KB flash, 96KB RAM, 120 MHz, 1.8-3.6V, 114 GPIO, LQFP144; ki_keywords: Arm Cortex-M3 STM32F2 STM32F2x5; ki_fp_filters: LQFP*20x20mm*P0.5mm*; Footprint: Package_QFP:LQFP-144_20x20mm_P0.5mm; Datasheet: https://www.st.com/resource/en/datasheet/stm32f205zc.pdf; Description_: STMicroelectronics Arm Cortex-M3 MCU, 256KB flash, 96KB RAM, 120 MHz, 1.8-3.6V, 114 GPIO, LQFP144
pins: 1 PE2, 2 PE3, 3 PE4, 4 PE5, 5 PE6, 6 VBAT, 7 PC13, 8 PC14, 9 PC15, 10 PF0, 11 PF1, 12 PF2, 13 PF3, 14 PF4, 15 PF5, 16 VSS, 17 VDD, 18 PF6, 19 PF7, 20 PF8, 21 PF9, 22 PF10, 23 PH0, 24 PH1, 25 NRST, 26 PC0, 27 PC1, 28 PC2, 29 PC3, 30 VDD, 31 VSSA, 32 VREF+, 33 VDDA, 34 PA0, 35 PA1, 36 PA2, 37 PA3, 38 VSS, 39 VDD, 40 PA4, 41 PA5, 42 PA6, 43 PA7, 44 PC4, 45 PC5, 46 PB0, 47 PB1, 48 PB2, 49 PF11, 50 PF12, 51 VSS, 52 VDD, 53 PF13, 54 PF14, 55 PF15, 56 PG0, 57 PG1, 58 PE7, 59 PE8, 60 PE9, 61 VSS, 62 VDD, 63 PE10, 64 PE11, 65 PE12, 66 PE13, 67 PE14, 68 PE15, 69 PB10, 70 PB11, 71 VCAP_1, 72 VDD, 73 PB12, 74 PB13, 75 PB14, 76 PB15, 77 PD8, 78 PD9, 79 PD10, 80 PD11, 81 PD12, 82 PD13, 83 VSS, 84 VDD, 85 PD14, 86 PD15, 87 PG2, 88 PG3, 89 PG4, 90 PG5, 91 PG6, 92 PG7, 93 PG8, 94 VSS, 95 VDD, 96 PC6, 97 PC7, 98 PC8, 99 PC9, 100 PA8, 101 PA9, 102 PA10, 103 PA11, 104 PA12, 105 PA13, 106 VCAP_2, 107 VSS, 108 VDD, 109 PA14, 110 PA15, 111 PC10, 112 PC11, 113 PC12, 114 PD0, 115 PD1, 116 PD2, 117 PD3, 118 PD4, 119 PD5, 120 VSS, 121 VDD, 122 PD6, 123 PD7, 124 PG9, 125 PG10, 126 PG11, 127 PG12, 128 PG13, 129 PG14, 130 VSS, 131 VDD, 132 PG15, 133 PB3, 134 PB4, 135 PB5, 136 PB6, 137 PB7, 138 BOOT0, 139 PB8, 140 PB9, 141 PE0, 142 PE1, 143 RFU, 144 VDD

## STM32F205ZETx
designator *  value STM32F205ZETx  Reference: U
STMicroelectronics Arm Cortex-M3 MCU, 512KB flash, 128KB RAM, 120 MHz, 1.8-3.6V, 114 GPIO, LQFP144; ki_keywords: Arm Cortex-M3 STM32F2 STM32F2x5; ki_fp_filters: LQFP*20x20mm*P0.5mm*; Footprint: Package_QFP:LQFP-144_20x20mm_P0.5mm; Datasheet: https://www.st.com/resource/en/datasheet/stm32f205ze.pdf; Description_: STMicroelectronics Arm Cortex-M3 MCU, 512KB flash, 128KB RAM, 120 MHz, 1.8-3.6V, 114 GPIO, LQFP144
pins: 1 PE2, 2 PE3, 3 PE4, 4 PE5, 5 PE6, 6 VBAT, 7 PC13, 8 PC14, 9 PC15, 10 PF0, 11 PF1, 12 PF2, 13 PF3, 14 PF4, 15 PF5, 16 VSS, 17 VDD, 18 PF6, 19 PF7, 20 PF8, 21 PF9, 22 PF10, 23 PH0, 24 PH1, 25 NRST, 26 PC0, 27 PC1, 28 PC2, 29 PC3, 30 VDD, 31 VSSA, 32 VREF+, 33 VDDA, 34 PA0, 35 PA1, 36 PA2, 37 PA3, 38 VSS, 39 VDD, 40 PA4, 41 PA5, 42 PA6, 43 PA7, 44 PC4, 45 PC5, 46 PB0, 47 PB1, 48 PB2, 49 PF11, 50 PF12, 51 VSS, 52 VDD, 53 PF13, 54 PF14, 55 PF15, 56 PG0, 57 PG1, 58 PE7, 59 PE8, 60 PE9, 61 VSS, 62 VDD, 63 PE10, 64 PE11, 65 PE12, 66 PE13, 67 PE14, 68 PE15, 69 PB10, 70 PB11, 71 VCAP_1, 72 VDD, 73 PB12, 74 PB13, 75 PB14, 76 PB15, 77 PD8, 78 PD9, 79 PD10, 80 PD11, 81 PD12, 82 PD13, 83 VSS, 84 VDD, 85 PD14, 86 PD15, 87 PG2, 88 PG3, 89 PG4, 90 PG5, 91 PG6, 92 PG7, 93 PG8, 94 VSS, 95 VDD, 96 PC6, 97 PC7, 98 PC8, 99 PC9, 100 PA8, 101 PA9, 102 PA10, 103 PA11, 104 PA12, 105 PA13, 106 VCAP_2, 107 VSS, 108 VDD, 109 PA14, 110 PA15, 111 PC10, 112 PC11, 113 PC12, 114 PD0, 115 PD1, 116 PD2, 117 PD3, 118 PD4, 119 PD5, 120 VSS, 121 VDD, 122 PD6, 123 PD7, 124 PG9, 125 PG10, 126 PG11, 127 PG12, 128 PG13, 129 PG14, 130 VSS, 131 VDD, 132 PG15, 133 PB3, 134 PB4, 135 PB5, 136 PB6, 137 PB7, 138 BOOT0, 139 PB8, 140 PB9, 141 PE0, 142 PE1, 143 RFU, 144 VDD

## STM32F205ZFTx
designator *  value STM32F205ZFTx  Reference: U
STMicroelectronics Arm Cortex-M3 MCU, 768KB flash, 128KB RAM, 120 MHz, 1.8-3.6V, 114 GPIO, LQFP144; ki_keywords: Arm Cortex-M3 STM32F2 STM32F2x5; ki_fp_filters: LQFP*20x20mm*P0.5mm*; Footprint: Package_QFP:LQFP-144_20x20mm_P0.5mm; Datasheet: https://www.st.com/resource/en/datasheet/stm32f205zf.pdf; Description_: STMicroelectronics Arm Cortex-M3 MCU, 768KB flash, 128KB RAM, 120 MHz, 1.8-3.6V, 114 GPIO, LQFP144
pins: 1 PE2, 2 PE3, 3 PE4, 4 PE5, 5 PE6, 6 VBAT, 7 PC13, 8 PC14, 9 PC15, 10 PF0, 11 PF1, 12 PF2, 13 PF3, 14 PF4, 15 PF5, 16 VSS, 17 VDD, 18 PF6, 19 PF7, 20 PF8, 21 PF9, 22 PF10, 23 PH0, 24 PH1, 25 NRST, 26 PC0, 27 PC1, 28 PC2, 29 PC3, 30 VDD, 31 VSSA, 32 VREF+, 33 VDDA, 34 PA0, 35 PA1, 36 PA2, 37 PA3, 38 VSS, 39 VDD, 40 PA4, 41 PA5, 42 PA6, 43 PA7, 44 PC4, 45 PC5, 46 PB0, 47 PB1, 48 PB2, 49 PF11, 50 PF12, 51 VSS, 52 VDD, 53 PF13, 54 PF14, 55 PF15, 56 PG0, 57 PG1, 58 PE7, 59 PE8, 60 PE9, 61 VSS, 62 VDD, 63 PE10, 64 PE11, 65 PE12, 66 PE13, 67 PE14, 68 PE15, 69 PB10, 70 PB11, 71 VCAP_1, 72 VDD, 73 PB12, 74 PB13, 75 PB14, 76 PB15, 77 PD8, 78 PD9, 79 PD10, 80 PD11, 81 PD12, 82 PD13, 83 VSS, 84 VDD, 85 PD14, 86 PD15, 87 PG2, 88 PG3, 89 PG4, 90 PG5, 91 PG6, 92 PG7, 93 PG8, 94 VSS, 95 VDD, 96 PC6, 97 PC7, 98 PC8, 99 PC9, 100 PA8, 101 PA9, 102 PA10, 103 PA11, 104 PA12, 105 PA13, 106 VCAP_2, 107 VSS, 108 VDD, 109 PA14, 110 PA15, 111 PC10, 112 PC11, 113 PC12, 114 PD0, 115 PD1, 116 PD2, 117 PD3, 118 PD4, 119 PD5, 120 VSS, 121 VDD, 122 PD6, 123 PD7, 124 PG9, 125 PG10, 126 PG11, 127 PG12, 128 PG13, 129 PG14, 130 VSS, 131 VDD, 132 PG15, 133 PB3, 134 PB4, 135 PB5, 136 PB6, 137 PB7, 138 BOOT0, 139 PB8, 140 PB9, 141 PE0, 142 PE1, 143 RFU, 144 VDD

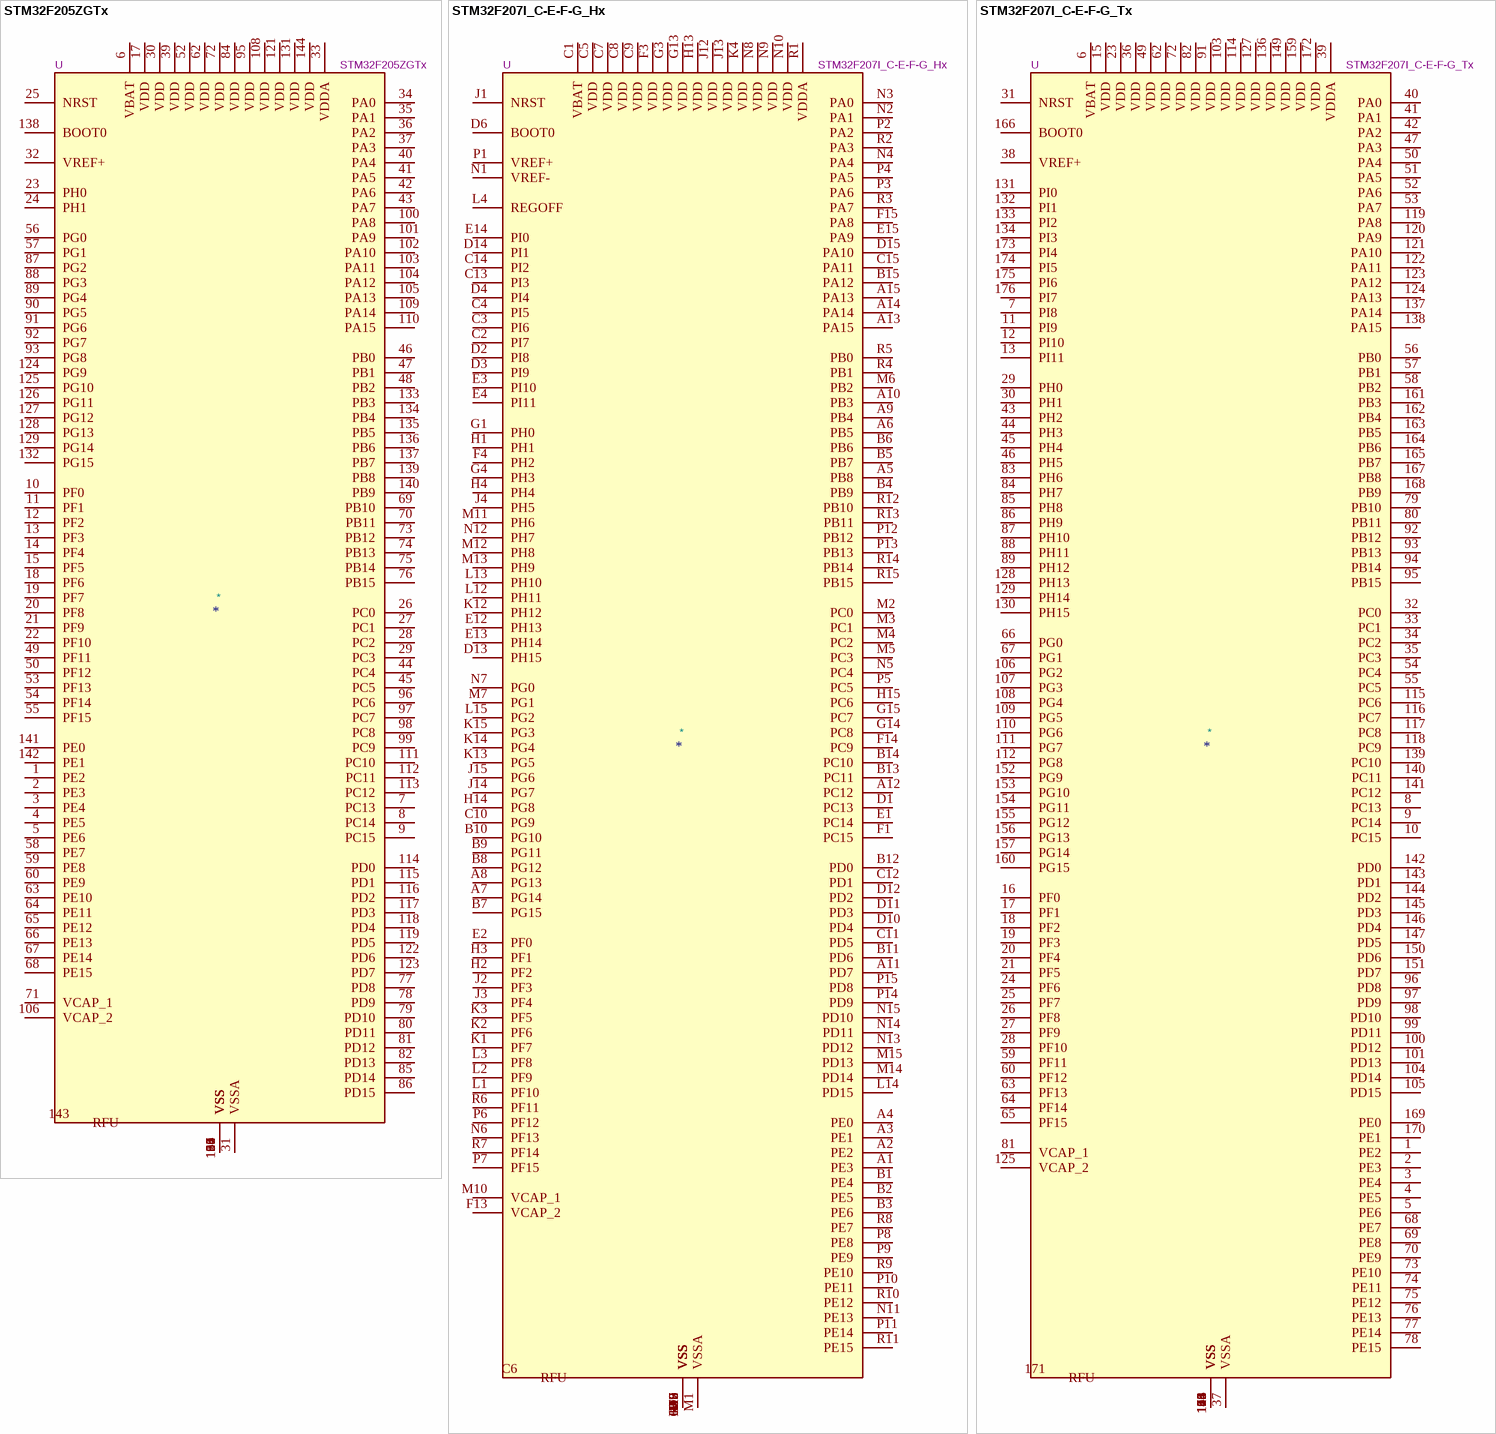
[diagram p4: symbols STM32F205ZGTx to STM32F207I_C-E-F-G_Tx]

## STM32F205ZGTx
designator *  value STM32F205ZGTx  Reference: U
STMicroelectronics Arm Cortex-M3 MCU, 1024KB flash, 128KB RAM, 120 MHz, 1.8-3.6V, 114 GPIO, LQFP144; ki_keywords: Arm Cortex-M3 STM32F2 STM32F2x5; ki_fp_filters: LQFP*20x20mm*P0.5mm*; Footprint: Package_QFP:LQFP-144_20x20mm_P0.5mm; Datasheet: https://www.st.com/resource/en/datasheet/stm32f205zg.pdf; Description_: STMicroelectronics Arm Cortex-M3 MCU, 1024KB flash, 128KB RAM, 120 MHz, 1.8-3.6V, 114 GPIO, LQFP144
pins: 1 PE2, 2 PE3, 3 PE4, 4 PE5, 5 PE6, 6 VBAT, 7 PC13, 8 PC14, 9 PC15, 10 PF0, 11 PF1, 12 PF2, 13 PF3, 14 PF4, 15 PF5, 16 VSS, 17 VDD, 18 PF6, 19 PF7, 20 PF8, 21 PF9, 22 PF10, 23 PH0, 24 PH1, 25 NRST, 26 PC0, 27 PC1, 28 PC2, 29 PC3, 30 VDD, 31 VSSA, 32 VREF+, 33 VDDA, 34 PA0, 35 PA1, 36 PA2, 37 PA3, 38 VSS, 39 VDD, 40 PA4, 41 PA5, 42 PA6, 43 PA7, 44 PC4, 45 PC5, 46 PB0, 47 PB1, 48 PB2, 49 PF11, 50 PF12, 51 VSS, 52 VDD, 53 PF13, 54 PF14, 55 PF15, 56 PG0, 57 PG1, 58 PE7, 59 PE8, 60 PE9, 61 VSS, 62 VDD, 63 PE10, 64 PE11, 65 PE12, 66 PE13, 67 PE14, 68 PE15, 69 PB10, 70 PB11, 71 VCAP_1, 72 VDD, 73 PB12, 74 PB13, 75 PB14, 76 PB15, 77 PD8, 78 PD9, 79 PD10, 80 PD11, 81 PD12, 82 PD13, 83 VSS, 84 VDD, 85 PD14, 86 PD15, 87 PG2, 88 PG3, 89 PG4, 90 PG5, 91 PG6, 92 PG7, 93 PG8, 94 VSS, 95 VDD, 96 PC6, 97 PC7, 98 PC8, 99 PC9, 100 PA8, 101 PA9, 102 PA10, 103 PA11, 104 PA12, 105 PA13, 106 VCAP_2, 107 VSS, 108 VDD, 109 PA14, 110 PA15, 111 PC10, 112 PC11, 113 PC12, 114 PD0, 115 PD1, 116 PD2, 117 PD3, 118 PD4, 119 PD5, 120 VSS, 121 VDD, 122 PD6, 123 PD7, 124 PG9, 125 PG10, 126 PG11, 127 PG12, 128 PG13, 129 PG14, 130 VSS, 131 VDD, 132 PG15, 133 PB3, 134 PB4, 135 PB5, 136 PB6, 137 PB7, 138 BOOT0, 139 PB8, 140 PB9, 141 PE0, 142 PE1, 143 RFU, 144 VDD

## STM32F207I_C-E-F-G_Hx
designator *  value STM32F207I_C-E-F-G_Hx  Reference: U
STMicroelectronics Arm Cortex-M3 MCU, 256-1024KB flash, 128KB RAM, 120 MHz, 1.8-3.6V, 140 GPIO, UFBGA176; ki_keywords: Arm Cortex-M3 STM32F2 STM32F2x7; ki_fp_filters: UFBGA*10x10mm*Layout15x15*P0.65mm*; Footprint: Package_BGA:UFBGA-201_10x10mm_Layout15x15_P0.65mm; Datasheet: https://www.st.com/resource/en/datasheet/stm32f207ic.pdf; Description_: STMicroelectronics Arm Cortex-M3 MCU, 256-1024KB flash, 128KB RAM, 120 MHz, 1.8-3.6V, 140 GPIO, UFBGA176
pins: A1 PE3, A2 PE2, A3 PE1, A4 PE0, A5 PB8, A6 PB5, A7 PG14, A8 PG13, A9 PB4, A10 PB3, A11 PD7, A12 PC12, A13 PA15, A14 PA14, A15 PA13, B1 PE4, B2 PE5, B3 PE6, B4 PB9, B5 PB7, B6 PB6, B7 PG15, B8 PG12, B9 PG11, B10 PG10, B11 PD6, B12 PD0, B13 PC11, B14 PC10, B15 PA12, C1 VBAT, C2 PI7, C3 PI6, C4 PI5, C5 VDD, C6 RFU, C7 VDD, C8 VDD, C9 VDD, C10 PG9, C11 PD5, C12 PD1, C13 PI3, C14 PI2, C15 PA11, D1 PC13, D2 PI8, D3 PI9, D4 PI4, D5 VSS, D6 BOOT0, D7 VSS, D8 VSS, D9 VSS, D10 PD4, D11 PD3, D12 PD2, D13 PH15, D14 PI1, D15 PA10, E1 PC14, E2 PF0, E3 PI10, E4 PI11, E12 PH13, E13 PH14, E14 PI0, E15 PA9, F1 PC15, F2 VSS, F3 VDD, F4 PH2, F6 VSS, F7 VSS, F8 VSS, F9 VSS, F10 VSS, F12 VSS, F13 VCAP_2, F14 PC9, F15 PA8, G1 PH0, G2 VSS, G3 VDD, G4 PH3, G6 VSS, G7 VSS, G8 VSS, G9 VSS, G10 VSS, G12 VSS, G13 VDD, G14 PC8, G15 PC7, H1 PH1, H2 PF2, H3 PF1, H4 PH4, H6 VSS, H7 VSS, H8 VSS, H9 VSS, H10 VSS, H12 VSS, H13 VDD, H14 PG8, H15 PC6, J1 NRST, J2 PF3, J3 PF4, J4 PH5, J6 VSS, J7 VSS, J8 VSS, J9 VSS, J10 VSS, J12 VDD, J13 VDD, J14 PG7, J15 PG6, K1 PF7, K2 PF6, K3 PF5, K4 VDD, K6 VSS, K7 VSS, K8 VSS, K9 VSS, K10 VSS, K12 PH12, K13 PG5, K14 PG4, K15 PG3, L1 PF10, L2 PF9, L3 PF8, L4 REGOFF, L12 PH11, L13 PH10, L14 PD15, L15 PG2, M1 VSSA, M2 PC0, M3 PC1, M4 PC2, M5 PC3, M6 PB2, M7 PG1, M8 VSS, M9 VSS, M10 VCAP_1, M11 PH6, M12 PH8, M13 PH9, M14 PD14, M15 PD13, N1 VREF-, N2 PA1, N3 PA0, N4 PA4, N5 PC4, N6 PF13, N7 PG0, N8 VDD, N9 VDD, N10 VDD, N11 PE13, N12 PH7, N13 PD12, N14 PD11, N15 PD10, P1 VREF+, P2 PA2, P3 PA6, P4 PA5, P5 PC5, P6 PF12, P7 PF15, P8 PE8, P9 PE9, P10 PE11, P11 PE14, P12 PB12, P13 PB13, P14 PD9, P15 PD8, R1 VDDA, R2 PA3, R3 PA7, R4 PB1, R5 PB0, R6 PF11, R7 PF14, R8 PE7, R9 PE10, R10 PE12, R11 PE15, R12 PB10, R13 PB11, R14 PB14, R15 PB15

## STM32F207I_C-E-F-G_Tx
designator *  value STM32F207I_C-E-F-G_Tx  Reference: U
STMicroelectronics Arm Cortex-M3 MCU, 256-1024KB flash, 128KB RAM, 120 MHz, 1.8-3.6V, 140 GPIO, LQFP176; ki_keywords: Arm Cortex-M3 STM32F2 STM32F2x7; ki_fp_filters: LQFP*24x24mm*P0.5mm*; Footprint: Package_QFP:LQFP-176_24x24mm_P0.5mm; Datasheet: https://www.st.com/resource/en/datasheet/stm32f207ic.pdf; Description_: STMicroelectronics Arm Cortex-M3 MCU, 256-1024KB flash, 128KB RAM, 120 MHz, 1.8-3.6V, 140 GPIO, LQFP176
pins: 1 PE2, 2 PE3, 3 PE4, 4 PE5, 5 PE6, 6 VBAT, 7 PI8, 8 PC13, 9 PC14, 10 PC15, 11 PI9, 12 PI10, 13 PI11, 14 VSS, 15 VDD, 16 PF0, 17 PF1, 18 PF2, 19 PF3, 20 PF4, 21 PF5, 22 VSS, 23 VDD, 24 PF6, 25 PF7, 26 PF8, 27 PF9, 28 PF10, 29 PH0, 30 PH1, 31 NRST, 32 PC0, 33 PC1, 34 PC2, 35 PC3, 36 VDD, 37 VSSA, 38 VREF+, 39 VDDA, 40 PA0, 41 PA1, 42 PA2, 43 PH2, 44 PH3, 45 PH4, 46 PH5, 47 PA3, 48 VSS, 49 VDD, 50 PA4, 51 PA5, 52 PA6, 53 PA7, 54 PC4, 55 PC5, 56 PB0, 57 PB1, 58 PB2, 59 PF11, 60 PF12, 61 VSS, 62 VDD, 63 PF13, 64 PF14, 65 PF15, 66 PG0, 67 PG1, 68 PE7, 69 PE8, 70 PE9, 71 VSS, 72 VDD, 73 PE10, 74 PE11, 75 PE12, 76 PE13, 77 PE14, 78 PE15, 79 PB10, 80 PB11, 81 VCAP_1, 82 VDD, 83 PH6, 84 PH7, 85 PH8, 86 PH9, 87 PH10, 88 PH11, 89 PH12, 90 VSS, 91 VDD, 92 PB12, 93 PB13, 94 PB14, 95 PB15, 96 PD8, 97 PD9, 98 PD10, 99 PD11, 100 PD12, 101 PD13, 102 VSS, 103 VDD, 104 PD14, 105 PD15, 106 PG2, 107 PG3, 108 PG4, 109 PG5, 110 PG6, 111 PG7, 112 PG8, 113 VSS, 114 VDD, 115 PC6, 116 PC7, 117 PC8, 118 PC9, 119 PA8, 120 PA9, 121 PA10, 122 PA11, 123 PA12, 124 PA13, 125 VCAP_2, 126 VSS, 127 VDD, 128 PH13, 129 PH14, 130 PH15, 131 PI0, 132 PI1, 133 PI2, 134 PI3, 135 VSS, 136 VDD, 137 PA14, 138 PA15, 139 PC10, 140 PC11, 141 PC12, 142 PD0, 143 PD1, 144 PD2, 145 PD3, 146 PD4, 147 PD5, 148 VSS, 149 VDD, 150 PD6, 151 PD7, 152 PG9, 153 PG10, 154 PG11, 155 PG12, 156 PG13, 157 PG14, 158 VSS, 159 VDD, 160 PG15, 161 PB3, 162 PB4, 163 PB5, 164 PB6, 165 PB7, 166 BOOT0, 167 PB8, 168 PB9, 169 PE0, 170 PE1, 171 RFU, 172 VDD, 173 PI4, 174 PI5, 175 PI6, 176 PI7

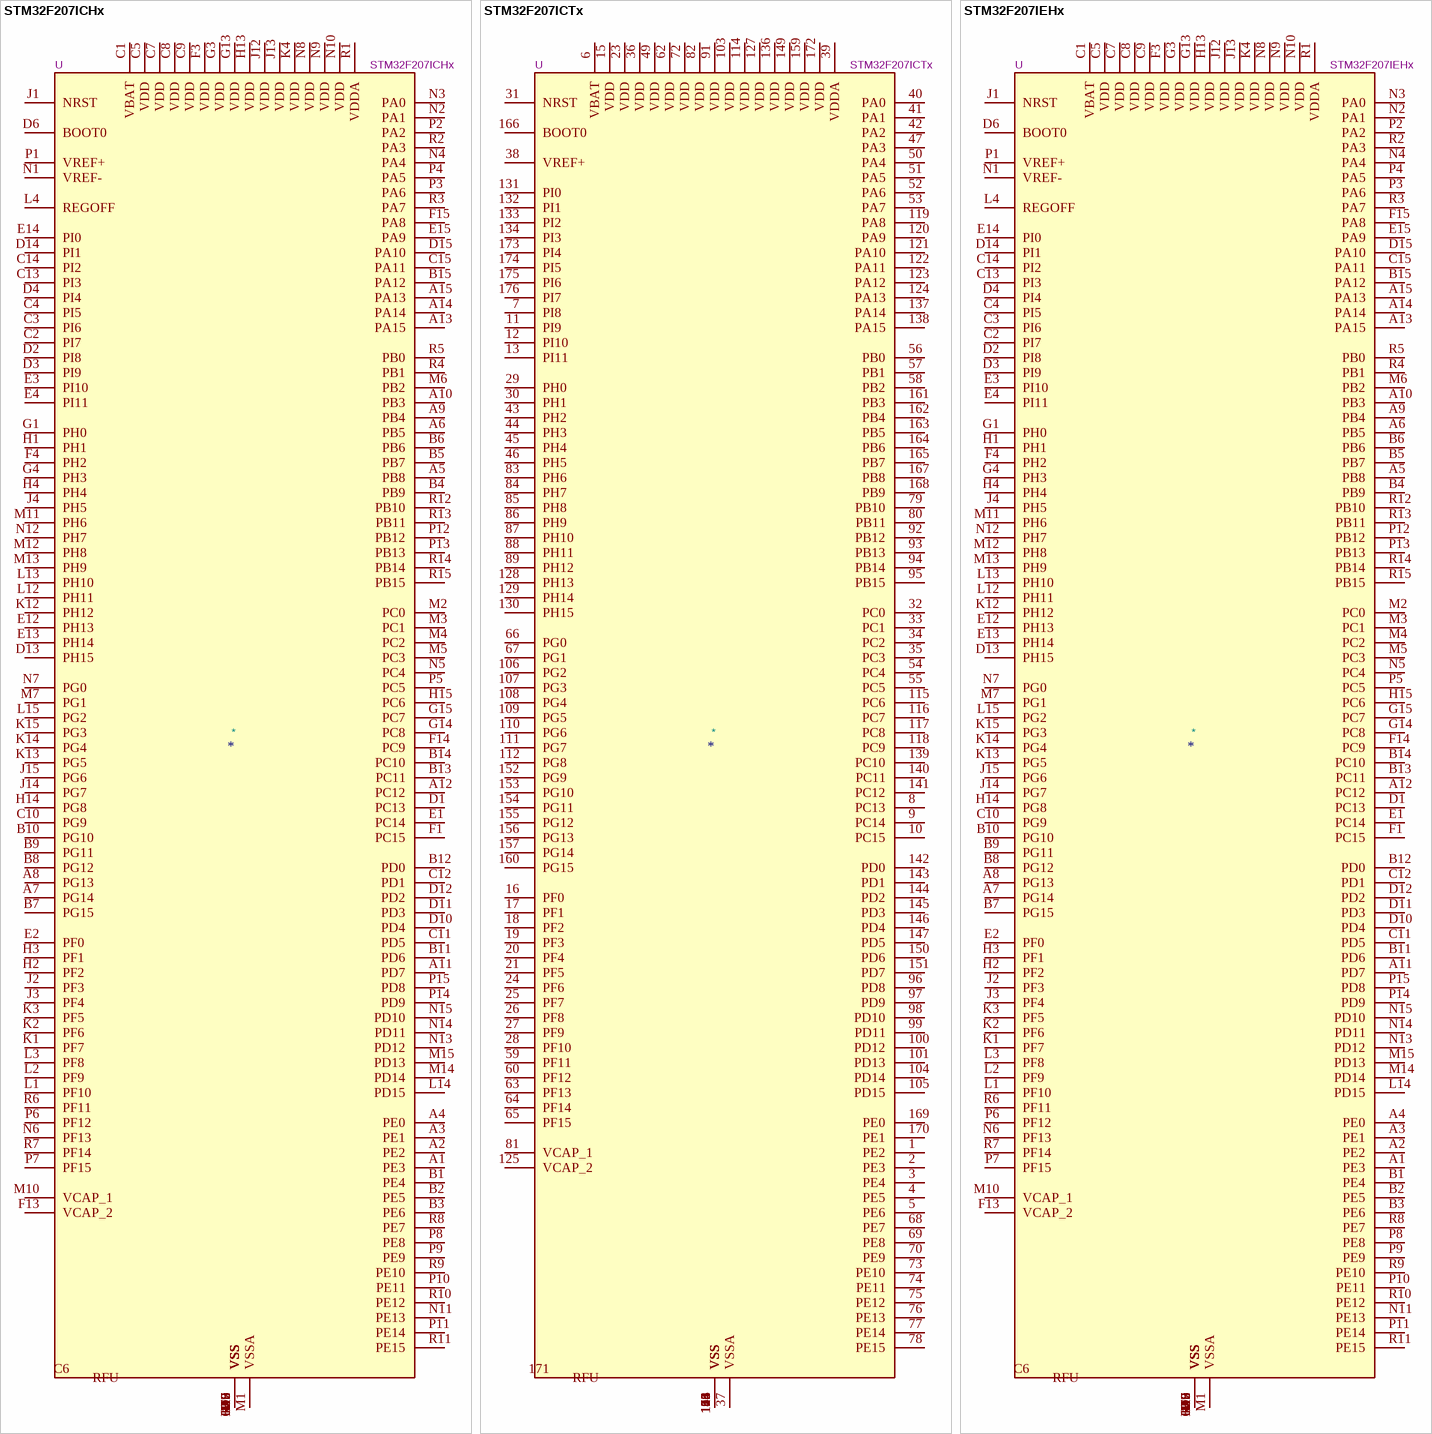
[diagram p5: symbols STM32F207ICHx to STM32F207IEHx]

## STM32F207ICHx
designator *  value STM32F207ICHx  Reference: U
STMicroelectronics Arm Cortex-M3 MCU, 256KB flash, 128KB RAM, 120 MHz, 1.8-3.6V, 140 GPIO, UFBGA176; ki_keywords: Arm Cortex-M3 STM32F2 STM32F2x7; ki_fp_filters: UFBGA*10x10mm*Layout15x15*P0.65mm*; Footprint: Package_BGA:UFBGA-201_10x10mm_Layout15x15_P0.65mm; Datasheet: https://www.st.com/resource/en/datasheet/stm32f207ic.pdf; Description_: STMicroelectronics Arm Cortex-M3 MCU, 256KB flash, 128KB RAM, 120 MHz, 1.8-3.6V, 140 GPIO, UFBGA176
pins: A1 PE3, A2 PE2, A3 PE1, A4 PE0, A5 PB8, A6 PB5, A7 PG14, A8 PG13, A9 PB4, A10 PB3, A11 PD7, A12 PC12, A13 PA15, A14 PA14, A15 PA13, B1 PE4, B2 PE5, B3 PE6, B4 PB9, B5 PB7, B6 PB6, B7 PG15, B8 PG12, B9 PG11, B10 PG10, B11 PD6, B12 PD0, B13 PC11, B14 PC10, B15 PA12, C1 VBAT, C2 PI7, C3 PI6, C4 PI5, C5 VDD, C6 RFU, C7 VDD, C8 VDD, C9 VDD, C10 PG9, C11 PD5, C12 PD1, C13 PI3, C14 PI2, C15 PA11, D1 PC13, D2 PI8, D3 PI9, D4 PI4, D5 VSS, D6 BOOT0, D7 VSS, D8 VSS, D9 VSS, D10 PD4, D11 PD3, D12 PD2, D13 PH15, D14 PI1, D15 PA10, E1 PC14, E2 PF0, E3 PI10, E4 PI11, E12 PH13, E13 PH14, E14 PI0, E15 PA9, F1 PC15, F2 VSS, F3 VDD, F4 PH2, F6 VSS, F7 VSS, F8 VSS, F9 VSS, F10 VSS, F12 VSS, F13 VCAP_2, F14 PC9, F15 PA8, G1 PH0, G2 VSS, G3 VDD, G4 PH3, G6 VSS, G7 VSS, G8 VSS, G9 VSS, G10 VSS, G12 VSS, G13 VDD, G14 PC8, G15 PC7, H1 PH1, H2 PF2, H3 PF1, H4 PH4, H6 VSS, H7 VSS, H8 VSS, H9 VSS, H10 VSS, H12 VSS, H13 VDD, H14 PG8, H15 PC6, J1 NRST, J2 PF3, J3 PF4, J4 PH5, J6 VSS, J7 VSS, J8 VSS, J9 VSS, J10 VSS, J12 VDD, J13 VDD, J14 PG7, J15 PG6, K1 PF7, K2 PF6, K3 PF5, K4 VDD, K6 VSS, K7 VSS, K8 VSS, K9 VSS, K10 VSS, K12 PH12, K13 PG5, K14 PG4, K15 PG3, L1 PF10, L2 PF9, L3 PF8, L4 REGOFF, L12 PH11, L13 PH10, L14 PD15, L15 PG2, M1 VSSA, M2 PC0, M3 PC1, M4 PC2, M5 PC3, M6 PB2, M7 PG1, M8 VSS, M9 VSS, M10 VCAP_1, M11 PH6, M12 PH8, M13 PH9, M14 PD14, M15 PD13, N1 VREF-, N2 PA1, N3 PA0, N4 PA4, N5 PC4, N6 PF13, N7 PG0, N8 VDD, N9 VDD, N10 VDD, N11 PE13, N12 PH7, N13 PD12, N14 PD11, N15 PD10, P1 VREF+, P2 PA2, P3 PA6, P4 PA5, P5 PC5, P6 PF12, P7 PF15, P8 PE8, P9 PE9, P10 PE11, P11 PE14, P12 PB12, P13 PB13, P14 PD9, P15 PD8, R1 VDDA, R2 PA3, R3 PA7, R4 PB1, R5 PB0, R6 PF11, R7 PF14, R8 PE7, R9 PE10, R10 PE12, R11 PE15, R12 PB10, R13 PB11, R14 PB14, R15 PB15

## STM32F207ICTx
designator *  value STM32F207ICTx  Reference: U
STMicroelectronics Arm Cortex-M3 MCU, 256KB flash, 128KB RAM, 120 MHz, 1.8-3.6V, 140 GPIO, LQFP176; ki_keywords: Arm Cortex-M3 STM32F2 STM32F2x7; ki_fp_filters: LQFP*24x24mm*P0.5mm*; Footprint: Package_QFP:LQFP-176_24x24mm_P0.5mm; Datasheet: https://www.st.com/resource/en/datasheet/stm32f207ic.pdf; Description_: STMicroelectronics Arm Cortex-M3 MCU, 256KB flash, 128KB RAM, 120 MHz, 1.8-3.6V, 140 GPIO, LQFP176
pins: 1 PE2, 2 PE3, 3 PE4, 4 PE5, 5 PE6, 6 VBAT, 7 PI8, 8 PC13, 9 PC14, 10 PC15, 11 PI9, 12 PI10, 13 PI11, 14 VSS, 15 VDD, 16 PF0, 17 PF1, 18 PF2, 19 PF3, 20 PF4, 21 PF5, 22 VSS, 23 VDD, 24 PF6, 25 PF7, 26 PF8, 27 PF9, 28 PF10, 29 PH0, 30 PH1, 31 NRST, 32 PC0, 33 PC1, 34 PC2, 35 PC3, 36 VDD, 37 VSSA, 38 VREF+, 39 VDDA, 40 PA0, 41 PA1, 42 PA2, 43 PH2, 44 PH3, 45 PH4, 46 PH5, 47 PA3, 48 VSS, 49 VDD, 50 PA4, 51 PA5, 52 PA6, 53 PA7, 54 PC4, 55 PC5, 56 PB0, 57 PB1, 58 PB2, 59 PF11, 60 PF12, 61 VSS, 62 VDD, 63 PF13, 64 PF14, 65 PF15, 66 PG0, 67 PG1, 68 PE7, 69 PE8, 70 PE9, 71 VSS, 72 VDD, 73 PE10, 74 PE11, 75 PE12, 76 PE13, 77 PE14, 78 PE15, 79 PB10, 80 PB11, 81 VCAP_1, 82 VDD, 83 PH6, 84 PH7, 85 PH8, 86 PH9, 87 PH10, 88 PH11, 89 PH12, 90 VSS, 91 VDD, 92 PB12, 93 PB13, 94 PB14, 95 PB15, 96 PD8, 97 PD9, 98 PD10, 99 PD11, 100 PD12, 101 PD13, 102 VSS, 103 VDD, 104 PD14, 105 PD15, 106 PG2, 107 PG3, 108 PG4, 109 PG5, 110 PG6, 111 PG7, 112 PG8, 113 VSS, 114 VDD, 115 PC6, 116 PC7, 117 PC8, 118 PC9, 119 PA8, 120 PA9, 121 PA10, 122 PA11, 123 PA12, 124 PA13, 125 VCAP_2, 126 VSS, 127 VDD, 128 PH13, 129 PH14, 130 PH15, 131 PI0, 132 PI1, 133 PI2, 134 PI3, 135 VSS, 136 VDD, 137 PA14, 138 PA15, 139 PC10, 140 PC11, 141 PC12, 142 PD0, 143 PD1, 144 PD2, 145 PD3, 146 PD4, 147 PD5, 148 VSS, 149 VDD, 150 PD6, 151 PD7, 152 PG9, 153 PG10, 154 PG11, 155 PG12, 156 PG13, 157 PG14, 158 VSS, 159 VDD, 160 PG15, 161 PB3, 162 PB4, 163 PB5, 164 PB6, 165 PB7, 166 BOOT0, 167 PB8, 168 PB9, 169 PE0, 170 PE1, 171 RFU, 172 VDD, 173 PI4, 174 PI5, 175 PI6, 176 PI7

## STM32F207IEHx
designator *  value STM32F207IEHx  Reference: U
STMicroelectronics Arm Cortex-M3 MCU, 512KB flash, 128KB RAM, 120 MHz, 1.8-3.6V, 140 GPIO, UFBGA176; ki_keywords: Arm Cortex-M3 STM32F2 STM32F2x7; ki_fp_filters: UFBGA*10x10mm*Layout15x15*P0.65mm*; Footprint: Package_BGA:UFBGA-201_10x10mm_Layout15x15_P0.65mm; Datasheet: https://www.st.com/resource/en/datasheet/stm32f207ie.pdf; Description_: STMicroelectronics Arm Cortex-M3 MCU, 512KB flash, 128KB RAM, 120 MHz, 1.8-3.6V, 140 GPIO, UFBGA176
pins: A1 PE3, A2 PE2, A3 PE1, A4 PE0, A5 PB8, A6 PB5, A7 PG14, A8 PG13, A9 PB4, A10 PB3, A11 PD7, A12 PC12, A13 PA15, A14 PA14, A15 PA13, B1 PE4, B2 PE5, B3 PE6, B4 PB9, B5 PB7, B6 PB6, B7 PG15, B8 PG12, B9 PG11, B10 PG10, B11 PD6, B12 PD0, B13 PC11, B14 PC10, B15 PA12, C1 VBAT, C2 PI7, C3 PI6, C4 PI5, C5 VDD, C6 RFU, C7 VDD, C8 VDD, C9 VDD, C10 PG9, C11 PD5, C12 PD1, C13 PI3, C14 PI2, C15 PA11, D1 PC13, D2 PI8, D3 PI9, D4 PI4, D5 VSS, D6 BOOT0, D7 VSS, D8 VSS, D9 VSS, D10 PD4, D11 PD3, D12 PD2, D13 PH15, D14 PI1, D15 PA10, E1 PC14, E2 PF0, E3 PI10, E4 PI11, E12 PH13, E13 PH14, E14 PI0, E15 PA9, F1 PC15, F2 VSS, F3 VDD, F4 PH2, F6 VSS, F7 VSS, F8 VSS, F9 VSS, F10 VSS, F12 VSS, F13 VCAP_2, F14 PC9, F15 PA8, G1 PH0, G2 VSS, G3 VDD, G4 PH3, G6 VSS, G7 VSS, G8 VSS, G9 VSS, G10 VSS, G12 VSS, G13 VDD, G14 PC8, G15 PC7, H1 PH1, H2 PF2, H3 PF1, H4 PH4, H6 VSS, H7 VSS, H8 VSS, H9 VSS, H10 VSS, H12 VSS, H13 VDD, H14 PG8, H15 PC6, J1 NRST, J2 PF3, J3 PF4, J4 PH5, J6 VSS, J7 VSS, J8 VSS, J9 VSS, J10 VSS, J12 VDD, J13 VDD, J14 PG7, J15 PG6, K1 PF7, K2 PF6, K3 PF5, K4 VDD, K6 VSS, K7 VSS, K8 VSS, K9 VSS, K10 VSS, K12 PH12, K13 PG5, K14 PG4, K15 PG3, L1 PF10, L2 PF9, L3 PF8, L4 REGOFF, L12 PH11, L13 PH10, L14 PD15, L15 PG2, M1 VSSA, M2 PC0, M3 PC1, M4 PC2, M5 PC3, M6 PB2, M7 PG1, M8 VSS, M9 VSS, M10 VCAP_1, M11 PH6, M12 PH8, M13 PH9, M14 PD14, M15 PD13, N1 VREF-, N2 PA1, N3 PA0, N4 PA4, N5 PC4, N6 PF13, N7 PG0, N8 VDD, N9 VDD, N10 VDD, N11 PE13, N12 PH7, N13 PD12, N14 PD11, N15 PD10, P1 VREF+, P2 PA2, P3 PA6, P4 PA5, P5 PC5, P6 PF12, P7 PF15, P8 PE8, P9 PE9, P10 PE11, P11 PE14, P12 PB12, P13 PB13, P14 PD9, P15 PD8, R1 VDDA, R2 PA3, R3 PA7, R4 PB1, R5 PB0, R6 PF11, R7 PF14, R8 PE7, R9 PE10, R10 PE12, R11 PE15, R12 PB10, R13 PB11, R14 PB14, R15 PB15

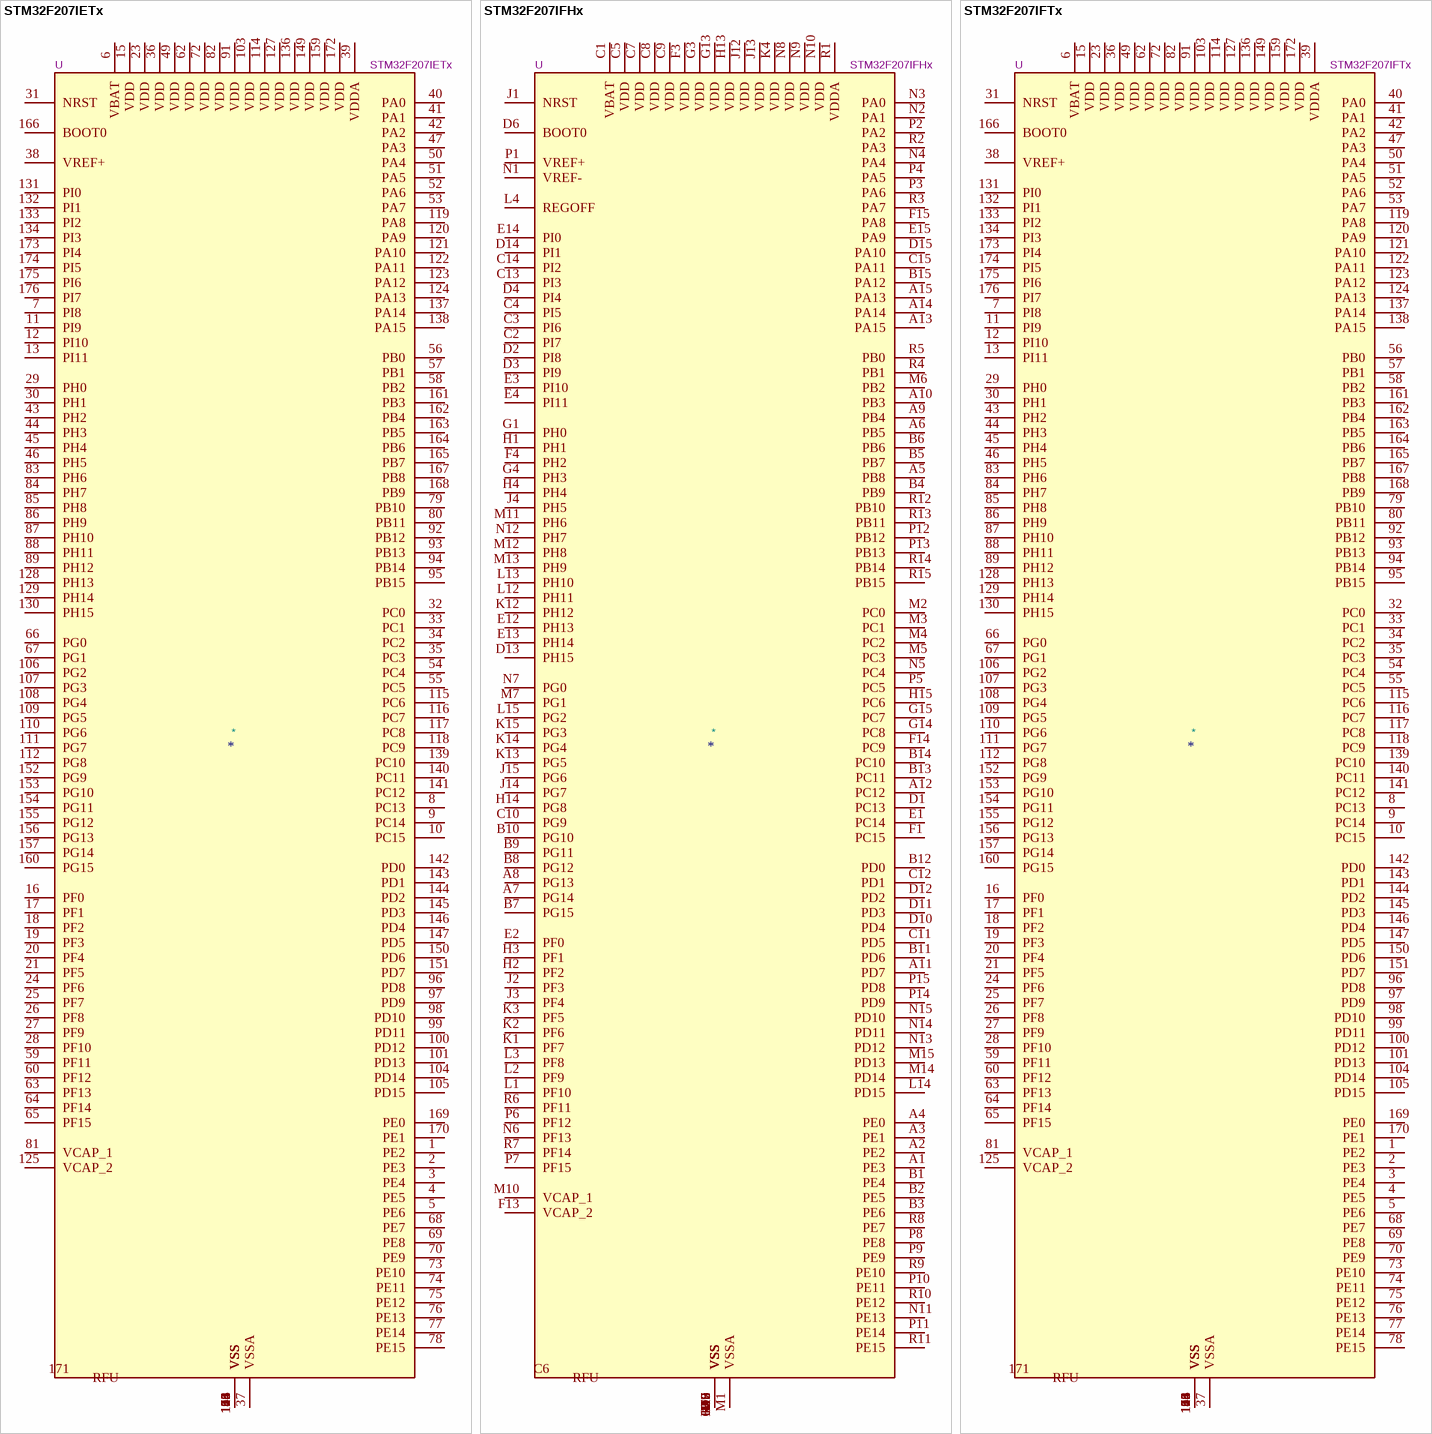
[diagram p6: symbols STM32F207IETx to STM32F207IFTx]

## STM32F207IETx
designator *  value STM32F207IETx  Reference: U
STMicroelectronics Arm Cortex-M3 MCU, 512KB flash, 128KB RAM, 120 MHz, 1.8-3.6V, 140 GPIO, LQFP176; ki_keywords: Arm Cortex-M3 STM32F2 STM32F2x7; ki_fp_filters: LQFP*24x24mm*P0.5mm*; Footprint: Package_QFP:LQFP-176_24x24mm_P0.5mm; Datasheet: https://www.st.com/resource/en/datasheet/stm32f207ie.pdf; Description_: STMicroelectronics Arm Cortex-M3 MCU, 512KB flash, 128KB RAM, 120 MHz, 1.8-3.6V, 140 GPIO, LQFP176
pins: 1 PE2, 2 PE3, 3 PE4, 4 PE5, 5 PE6, 6 VBAT, 7 PI8, 8 PC13, 9 PC14, 10 PC15, 11 PI9, 12 PI10, 13 PI11, 14 VSS, 15 VDD, 16 PF0, 17 PF1, 18 PF2, 19 PF3, 20 PF4, 21 PF5, 22 VSS, 23 VDD, 24 PF6, 25 PF7, 26 PF8, 27 PF9, 28 PF10, 29 PH0, 30 PH1, 31 NRST, 32 PC0, 33 PC1, 34 PC2, 35 PC3, 36 VDD, 37 VSSA, 38 VREF+, 39 VDDA, 40 PA0, 41 PA1, 42 PA2, 43 PH2, 44 PH3, 45 PH4, 46 PH5, 47 PA3, 48 VSS, 49 VDD, 50 PA4, 51 PA5, 52 PA6, 53 PA7, 54 PC4, 55 PC5, 56 PB0, 57 PB1, 58 PB2, 59 PF11, 60 PF12, 61 VSS, 62 VDD, 63 PF13, 64 PF14, 65 PF15, 66 PG0, 67 PG1, 68 PE7, 69 PE8, 70 PE9, 71 VSS, 72 VDD, 73 PE10, 74 PE11, 75 PE12, 76 PE13, 77 PE14, 78 PE15, 79 PB10, 80 PB11, 81 VCAP_1, 82 VDD, 83 PH6, 84 PH7, 85 PH8, 86 PH9, 87 PH10, 88 PH11, 89 PH12, 90 VSS, 91 VDD, 92 PB12, 93 PB13, 94 PB14, 95 PB15, 96 PD8, 97 PD9, 98 PD10, 99 PD11, 100 PD12, 101 PD13, 102 VSS, 103 VDD, 104 PD14, 105 PD15, 106 PG2, 107 PG3, 108 PG4, 109 PG5, 110 PG6, 111 PG7, 112 PG8, 113 VSS, 114 VDD, 115 PC6, 116 PC7, 117 PC8, 118 PC9, 119 PA8, 120 PA9, 121 PA10, 122 PA11, 123 PA12, 124 PA13, 125 VCAP_2, 126 VSS, 127 VDD, 128 PH13, 129 PH14, 130 PH15, 131 PI0, 132 PI1, 133 PI2, 134 PI3, 135 VSS, 136 VDD, 137 PA14, 138 PA15, 139 PC10, 140 PC11, 141 PC12, 142 PD0, 143 PD1, 144 PD2, 145 PD3, 146 PD4, 147 PD5, 148 VSS, 149 VDD, 150 PD6, 151 PD7, 152 PG9, 153 PG10, 154 PG11, 155 PG12, 156 PG13, 157 PG14, 158 VSS, 159 VDD, 160 PG15, 161 PB3, 162 PB4, 163 PB5, 164 PB6, 165 PB7, 166 BOOT0, 167 PB8, 168 PB9, 169 PE0, 170 PE1, 171 RFU, 172 VDD, 173 PI4, 174 PI5, 175 PI6, 176 PI7

## STM32F207IFHx
designator *  value STM32F207IFHx  Reference: U
STMicroelectronics Arm Cortex-M3 MCU, 768KB flash, 128KB RAM, 120 MHz, 1.8-3.6V, 140 GPIO, UFBGA176; ki_keywords: Arm Cortex-M3 STM32F2 STM32F2x7; ki_fp_filters: UFBGA*10x10mm*Layout15x15*P0.65mm*; Footprint: Package_BGA:UFBGA-201_10x10mm_Layout15x15_P0.65mm; Datasheet: https://www.st.com/resource/en/datasheet/stm32f207if.pdf; Description_: STMicroelectronics Arm Cortex-M3 MCU, 768KB flash, 128KB RAM, 120 MHz, 1.8-3.6V, 140 GPIO, UFBGA176
pins: A1 PE3, A2 PE2, A3 PE1, A4 PE0, A5 PB8, A6 PB5, A7 PG14, A8 PG13, A9 PB4, A10 PB3, A11 PD7, A12 PC12, A13 PA15, A14 PA14, A15 PA13, B1 PE4, B2 PE5, B3 PE6, B4 PB9, B5 PB7, B6 PB6, B7 PG15, B8 PG12, B9 PG11, B10 PG10, B11 PD6, B12 PD0, B13 PC11, B14 PC10, B15 PA12, C1 VBAT, C2 PI7, C3 PI6, C4 PI5, C5 VDD, C6 RFU, C7 VDD, C8 VDD, C9 VDD, C10 PG9, C11 PD5, C12 PD1, C13 PI3, C14 PI2, C15 PA11, D1 PC13, D2 PI8, D3 PI9, D4 PI4, D5 VSS, D6 BOOT0, D7 VSS, D8 VSS, D9 VSS, D10 PD4, D11 PD3, D12 PD2, D13 PH15, D14 PI1, D15 PA10, E1 PC14, E2 PF0, E3 PI10, E4 PI11, E12 PH13, E13 PH14, E14 PI0, E15 PA9, F1 PC15, F2 VSS, F3 VDD, F4 PH2, F6 VSS, F7 VSS, F8 VSS, F9 VSS, F10 VSS, F12 VSS, F13 VCAP_2, F14 PC9, F15 PA8, G1 PH0, G2 VSS, G3 VDD, G4 PH3, G6 VSS, G7 VSS, G8 VSS, G9 VSS, G10 VSS, G12 VSS, G13 VDD, G14 PC8, G15 PC7, H1 PH1, H2 PF2, H3 PF1, H4 PH4, H6 VSS, H7 VSS, H8 VSS, H9 VSS, H10 VSS, H12 VSS, H13 VDD, H14 PG8, H15 PC6, J1 NRST, J2 PF3, J3 PF4, J4 PH5, J6 VSS, J7 VSS, J8 VSS, J9 VSS, J10 VSS, J12 VDD, J13 VDD, J14 PG7, J15 PG6, K1 PF7, K2 PF6, K3 PF5, K4 VDD, K6 VSS, K7 VSS, K8 VSS, K9 VSS, K10 VSS, K12 PH12, K13 PG5, K14 PG4, K15 PG3, L1 PF10, L2 PF9, L3 PF8, L4 REGOFF, L12 PH11, L13 PH10, L14 PD15, L15 PG2, M1 VSSA, M2 PC0, M3 PC1, M4 PC2, M5 PC3, M6 PB2, M7 PG1, M8 VSS, M9 VSS, M10 VCAP_1, M11 PH6, M12 PH8, M13 PH9, M14 PD14, M15 PD13, N1 VREF-, N2 PA1, N3 PA0, N4 PA4, N5 PC4, N6 PF13, N7 PG0, N8 VDD, N9 VDD, N10 VDD, N11 PE13, N12 PH7, N13 PD12, N14 PD11, N15 PD10, P1 VREF+, P2 PA2, P3 PA6, P4 PA5, P5 PC5, P6 PF12, P7 PF15, P8 PE8, P9 PE9, P10 PE11, P11 PE14, P12 PB12, P13 PB13, P14 PD9, P15 PD8, R1 VDDA, R2 PA3, R3 PA7, R4 PB1, R5 PB0, R6 PF11, R7 PF14, R8 PE7, R9 PE10, R10 PE12, R11 PE15, R12 PB10, R13 PB11, R14 PB14, R15 PB15

## STM32F207IFTx
designator *  value STM32F207IFTx  Reference: U
STMicroelectronics Arm Cortex-M3 MCU, 768KB flash, 128KB RAM, 120 MHz, 1.8-3.6V, 140 GPIO, LQFP176; ki_keywords: Arm Cortex-M3 STM32F2 STM32F2x7; ki_fp_filters: LQFP*24x24mm*P0.5mm*; Footprint: Package_QFP:LQFP-176_24x24mm_P0.5mm; Datasheet: https://www.st.com/resource/en/datasheet/stm32f207if.pdf; Description_: STMicroelectronics Arm Cortex-M3 MCU, 768KB flash, 128KB RAM, 120 MHz, 1.8-3.6V, 140 GPIO, LQFP176
pins: 1 PE2, 2 PE3, 3 PE4, 4 PE5, 5 PE6, 6 VBAT, 7 PI8, 8 PC13, 9 PC14, 10 PC15, 11 PI9, 12 PI10, 13 PI11, 14 VSS, 15 VDD, 16 PF0, 17 PF1, 18 PF2, 19 PF3, 20 PF4, 21 PF5, 22 VSS, 23 VDD, 24 PF6, 25 PF7, 26 PF8, 27 PF9, 28 PF10, 29 PH0, 30 PH1, 31 NRST, 32 PC0, 33 PC1, 34 PC2, 35 PC3, 36 VDD, 37 VSSA, 38 VREF+, 39 VDDA, 40 PA0, 41 PA1, 42 PA2, 43 PH2, 44 PH3, 45 PH4, 46 PH5, 47 PA3, 48 VSS, 49 VDD, 50 PA4, 51 PA5, 52 PA6, 53 PA7, 54 PC4, 55 PC5, 56 PB0, 57 PB1, 58 PB2, 59 PF11, 60 PF12, 61 VSS, 62 VDD, 63 PF13, 64 PF14, 65 PF15, 66 PG0, 67 PG1, 68 PE7, 69 PE8, 70 PE9, 71 VSS, 72 VDD, 73 PE10, 74 PE11, 75 PE12, 76 PE13, 77 PE14, 78 PE15, 79 PB10, 80 PB11, 81 VCAP_1, 82 VDD, 83 PH6, 84 PH7, 85 PH8, 86 PH9, 87 PH10, 88 PH11, 89 PH12, 90 VSS, 91 VDD, 92 PB12, 93 PB13, 94 PB14, 95 PB15, 96 PD8, 97 PD9, 98 PD10, 99 PD11, 100 PD12, 101 PD13, 102 VSS, 103 VDD, 104 PD14, 105 PD15, 106 PG2, 107 PG3, 108 PG4, 109 PG5, 110 PG6, 111 PG7, 112 PG8, 113 VSS, 114 VDD, 115 PC6, 116 PC7, 117 PC8, 118 PC9, 119 PA8, 120 PA9, 121 PA10, 122 PA11, 123 PA12, 124 PA13, 125 VCAP_2, 126 VSS, 127 VDD, 128 PH13, 129 PH14, 130 PH15, 131 PI0, 132 PI1, 133 PI2, 134 PI3, 135 VSS, 136 VDD, 137 PA14, 138 PA15, 139 PC10, 140 PC11, 141 PC12, 142 PD0, 143 PD1, 144 PD2, 145 PD3, 146 PD4, 147 PD5, 148 VSS, 149 VDD, 150 PD6, 151 PD7, 152 PG9, 153 PG10, 154 PG11, 155 PG12, 156 PG13, 157 PG14, 158 VSS, 159 VDD, 160 PG15, 161 PB3, 162 PB4, 163 PB5, 164 PB6, 165 PB7, 166 BOOT0, 167 PB8, 168 PB9, 169 PE0, 170 PE1, 171 RFU, 172 VDD, 173 PI4, 174 PI5, 175 PI6, 176 PI7

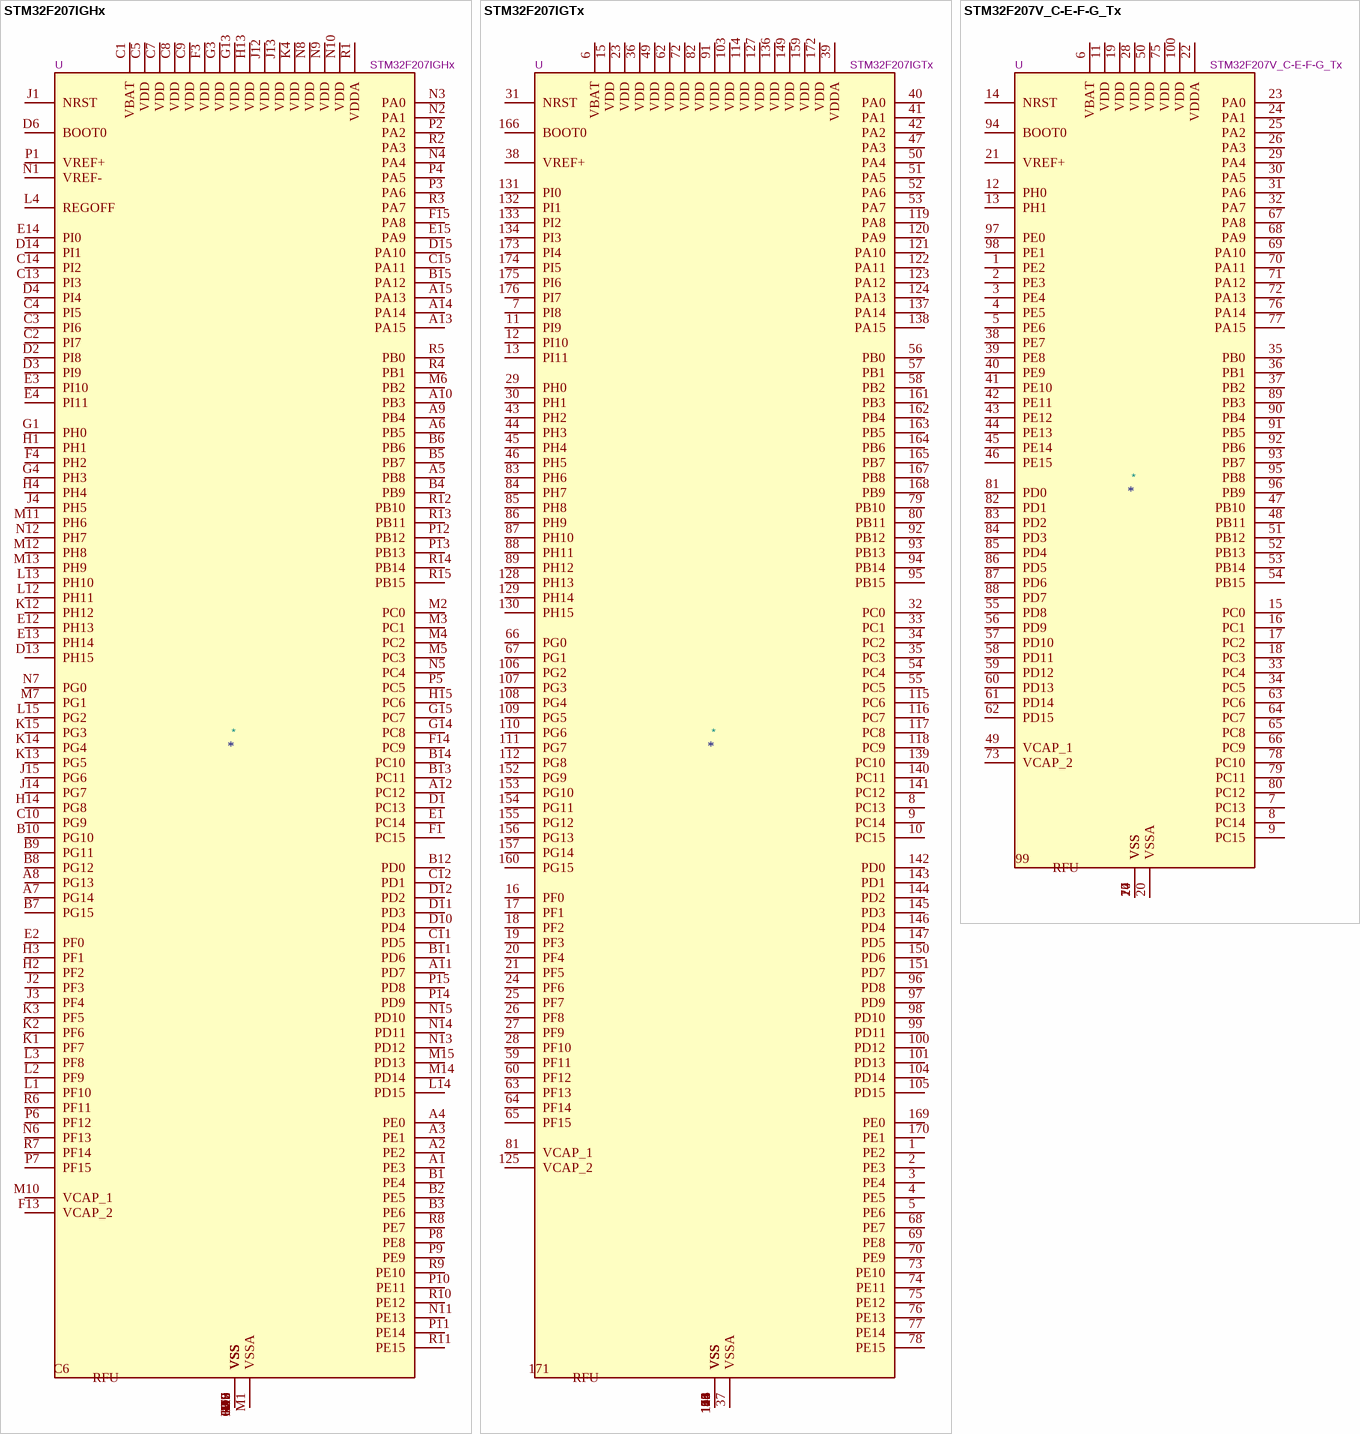
[diagram p7: symbols STM32F207IGHx to STM32F207V_C-E-F-G_Tx]

## STM32F207IGHx
designator *  value STM32F207IGHx  Reference: U
STMicroelectronics Arm Cortex-M3 MCU, 1024KB flash, 128KB RAM, 120 MHz, 1.8-3.6V, 140 GPIO, UFBGA176; ki_keywords: Arm Cortex-M3 STM32F2 STM32F2x7; ki_fp_filters: UFBGA*10x10mm*Layout15x15*P0.65mm*; Footprint: Package_BGA:UFBGA-201_10x10mm_Layout15x15_P0.65mm; Datasheet: https://www.st.com/resource/en/datasheet/stm32f207ig.pdf; Description_: STMicroelectronics Arm Cortex-M3 MCU, 1024KB flash, 128KB RAM, 120 MHz, 1.8-3.6V, 140 GPIO, UFBGA176
pins: A1 PE3, A2 PE2, A3 PE1, A4 PE0, A5 PB8, A6 PB5, A7 PG14, A8 PG13, A9 PB4, A10 PB3, A11 PD7, A12 PC12, A13 PA15, A14 PA14, A15 PA13, B1 PE4, B2 PE5, B3 PE6, B4 PB9, B5 PB7, B6 PB6, B7 PG15, B8 PG12, B9 PG11, B10 PG10, B11 PD6, B12 PD0, B13 PC11, B14 PC10, B15 PA12, C1 VBAT, C2 PI7, C3 PI6, C4 PI5, C5 VDD, C6 RFU, C7 VDD, C8 VDD, C9 VDD, C10 PG9, C11 PD5, C12 PD1, C13 PI3, C14 PI2, C15 PA11, D1 PC13, D2 PI8, D3 PI9, D4 PI4, D5 VSS, D6 BOOT0, D7 VSS, D8 VSS, D9 VSS, D10 PD4, D11 PD3, D12 PD2, D13 PH15, D14 PI1, D15 PA10, E1 PC14, E2 PF0, E3 PI10, E4 PI11, E12 PH13, E13 PH14, E14 PI0, E15 PA9, F1 PC15, F2 VSS, F3 VDD, F4 PH2, F6 VSS, F7 VSS, F8 VSS, F9 VSS, F10 VSS, F12 VSS, F13 VCAP_2, F14 PC9, F15 PA8, G1 PH0, G2 VSS, G3 VDD, G4 PH3, G6 VSS, G7 VSS, G8 VSS, G9 VSS, G10 VSS, G12 VSS, G13 VDD, G14 PC8, G15 PC7, H1 PH1, H2 PF2, H3 PF1, H4 PH4, H6 VSS, H7 VSS, H8 VSS, H9 VSS, H10 VSS, H12 VSS, H13 VDD, H14 PG8, H15 PC6, J1 NRST, J2 PF3, J3 PF4, J4 PH5, J6 VSS, J7 VSS, J8 VSS, J9 VSS, J10 VSS, J12 VDD, J13 VDD, J14 PG7, J15 PG6, K1 PF7, K2 PF6, K3 PF5, K4 VDD, K6 VSS, K7 VSS, K8 VSS, K9 VSS, K10 VSS, K12 PH12, K13 PG5, K14 PG4, K15 PG3, L1 PF10, L2 PF9, L3 PF8, L4 REGOFF, L12 PH11, L13 PH10, L14 PD15, L15 PG2, M1 VSSA, M2 PC0, M3 PC1, M4 PC2, M5 PC3, M6 PB2, M7 PG1, M8 VSS, M9 VSS, M10 VCAP_1, M11 PH6, M12 PH8, M13 PH9, M14 PD14, M15 PD13, N1 VREF-, N2 PA1, N3 PA0, N4 PA4, N5 PC4, N6 PF13, N7 PG0, N8 VDD, N9 VDD, N10 VDD, N11 PE13, N12 PH7, N13 PD12, N14 PD11, N15 PD10, P1 VREF+, P2 PA2, P3 PA6, P4 PA5, P5 PC5, P6 PF12, P7 PF15, P8 PE8, P9 PE9, P10 PE11, P11 PE14, P12 PB12, P13 PB13, P14 PD9, P15 PD8, R1 VDDA, R2 PA3, R3 PA7, R4 PB1, R5 PB0, R6 PF11, R7 PF14, R8 PE7, R9 PE10, R10 PE12, R11 PE15, R12 PB10, R13 PB11, R14 PB14, R15 PB15

## STM32F207IGTx
designator *  value STM32F207IGTx  Reference: U
STMicroelectronics Arm Cortex-M3 MCU, 1024KB flash, 128KB RAM, 120 MHz, 1.8-3.6V, 140 GPIO, LQFP176; ki_keywords: Arm Cortex-M3 STM32F2 STM32F2x7; ki_fp_filters: LQFP*24x24mm*P0.5mm*; Footprint: Package_QFP:LQFP-176_24x24mm_P0.5mm; Datasheet: https://www.st.com/resource/en/datasheet/stm32f207ig.pdf; Description_: STMicroelectronics Arm Cortex-M3 MCU, 1024KB flash, 128KB RAM, 120 MHz, 1.8-3.6V, 140 GPIO, LQFP176
pins: 1 PE2, 2 PE3, 3 PE4, 4 PE5, 5 PE6, 6 VBAT, 7 PI8, 8 PC13, 9 PC14, 10 PC15, 11 PI9, 12 PI10, 13 PI11, 14 VSS, 15 VDD, 16 PF0, 17 PF1, 18 PF2, 19 PF3, 20 PF4, 21 PF5, 22 VSS, 23 VDD, 24 PF6, 25 PF7, 26 PF8, 27 PF9, 28 PF10, 29 PH0, 30 PH1, 31 NRST, 32 PC0, 33 PC1, 34 PC2, 35 PC3, 36 VDD, 37 VSSA, 38 VREF+, 39 VDDA, 40 PA0, 41 PA1, 42 PA2, 43 PH2, 44 PH3, 45 PH4, 46 PH5, 47 PA3, 48 VSS, 49 VDD, 50 PA4, 51 PA5, 52 PA6, 53 PA7, 54 PC4, 55 PC5, 56 PB0, 57 PB1, 58 PB2, 59 PF11, 60 PF12, 61 VSS, 62 VDD, 63 PF13, 64 PF14, 65 PF15, 66 PG0, 67 PG1, 68 PE7, 69 PE8, 70 PE9, 71 VSS, 72 VDD, 73 PE10, 74 PE11, 75 PE12, 76 PE13, 77 PE14, 78 PE15, 79 PB10, 80 PB11, 81 VCAP_1, 82 VDD, 83 PH6, 84 PH7, 85 PH8, 86 PH9, 87 PH10, 88 PH11, 89 PH12, 90 VSS, 91 VDD, 92 PB12, 93 PB13, 94 PB14, 95 PB15, 96 PD8, 97 PD9, 98 PD10, 99 PD11, 100 PD12, 101 PD13, 102 VSS, 103 VDD, 104 PD14, 105 PD15, 106 PG2, 107 PG3, 108 PG4, 109 PG5, 110 PG6, 111 PG7, 112 PG8, 113 VSS, 114 VDD, 115 PC6, 116 PC7, 117 PC8, 118 PC9, 119 PA8, 120 PA9, 121 PA10, 122 PA11, 123 PA12, 124 PA13, 125 VCAP_2, 126 VSS, 127 VDD, 128 PH13, 129 PH14, 130 PH15, 131 PI0, 132 PI1, 133 PI2, 134 PI3, 135 VSS, 136 VDD, 137 PA14, 138 PA15, 139 PC10, 140 PC11, 141 PC12, 142 PD0, 143 PD1, 144 PD2, 145 PD3, 146 PD4, 147 PD5, 148 VSS, 149 VDD, 150 PD6, 151 PD7, 152 PG9, 153 PG10, 154 PG11, 155 PG12, 156 PG13, 157 PG14, 158 VSS, 159 VDD, 160 PG15, 161 PB3, 162 PB4, 163 PB5, 164 PB6, 165 PB7, 166 BOOT0, 167 PB8, 168 PB9, 169 PE0, 170 PE1, 171 RFU, 172 VDD, 173 PI4, 174 PI5, 175 PI6, 176 PI7